# Altium schematic symbol library WCH.SchLib: 139 symbols (part 3 of 3)
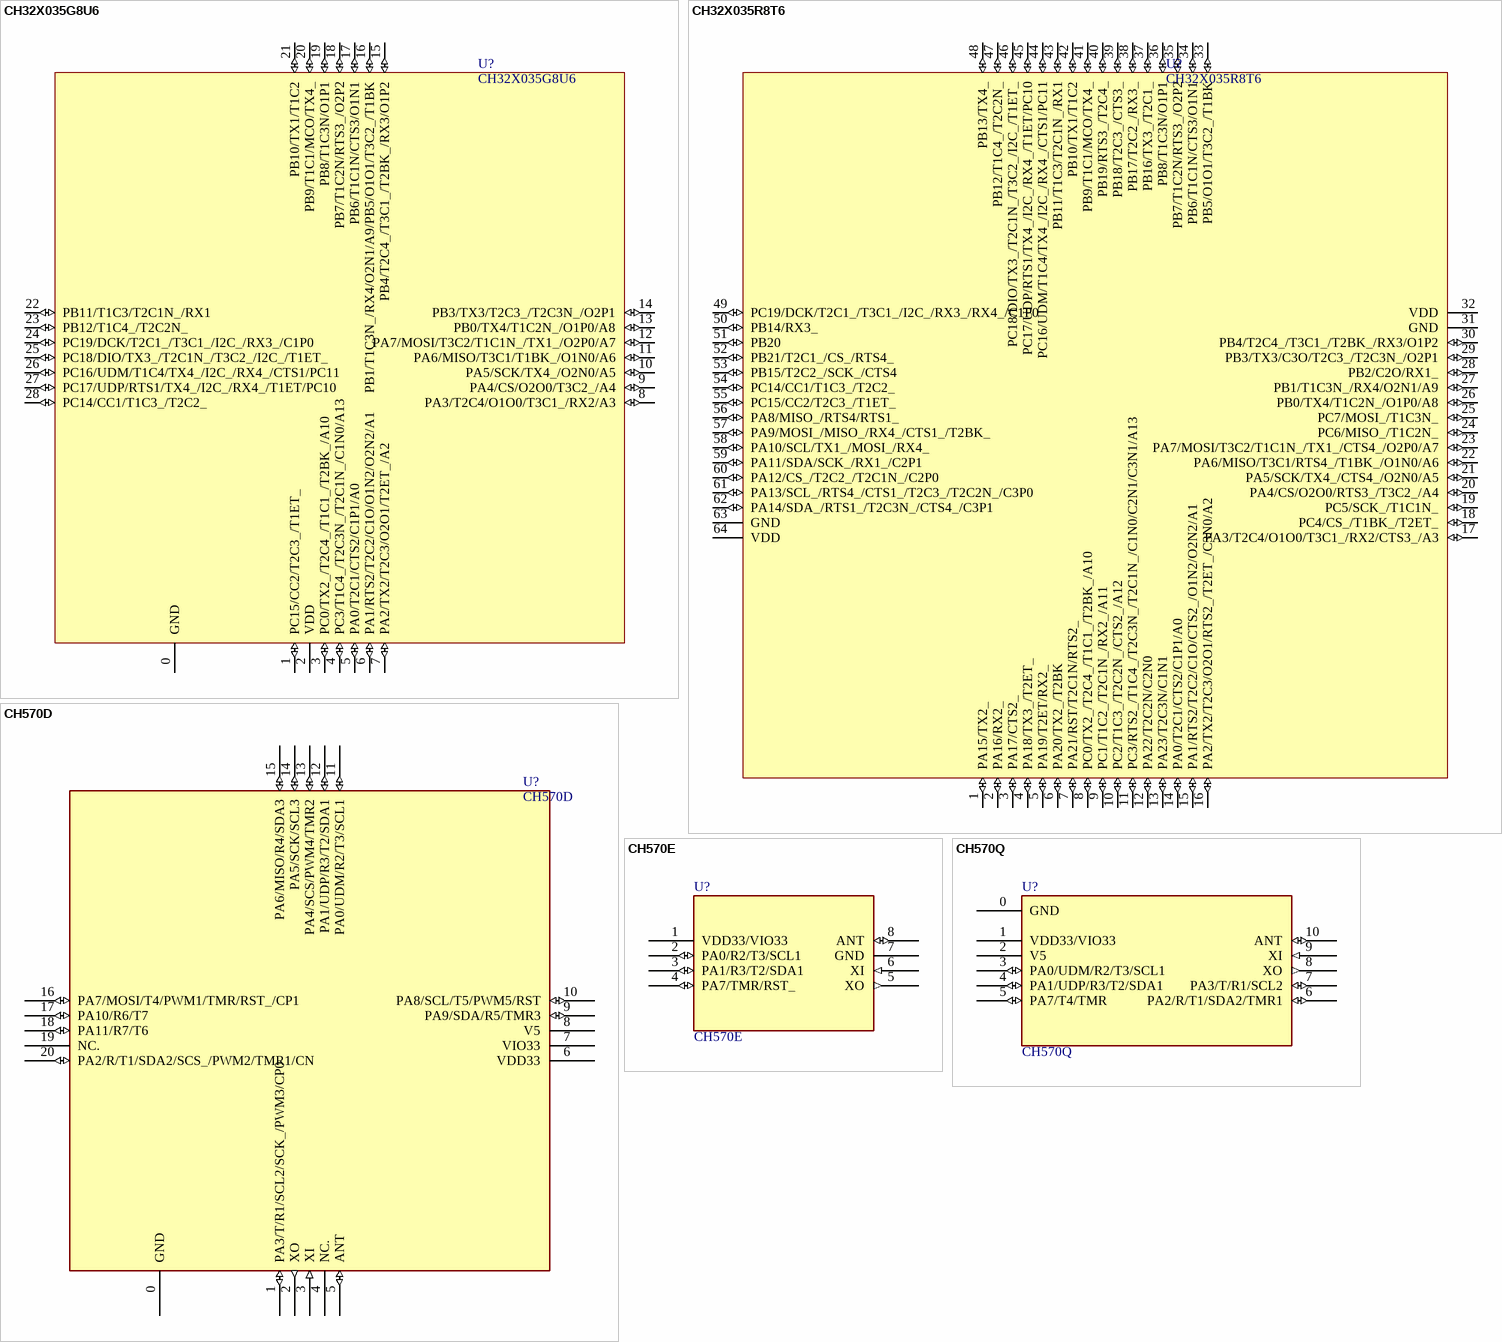
[diagram p28: symbols CH32X035G8U6 to CH570Q]

## CH32X035R8T6
designator U?
RISC-V MCU with USB/PD/ADC/SPI/I2C/UART/OA/CMP; CPU内核: RISC-V4C; CPU最大主频: 48MHz; I/O数量: 60; 制造商: WCH(南京沁恒); 子类别: RISC-V USB-PD; 存储器类型: FLASH; 存储容量: 62KB; 封装: LQFP64M; 工作电压: 3.3V/5V; 类别: 32位通用
footprint LQFP64M_10X10
pins: 1 PA15/TX2_ (io), 2 PA16/RX2_ (io), 3 PA17/CTS2_ (io), 4 PA18/TX3_/T2ET_ (io), 5 PA19/T2ET/RX2_ (io), 6 PA20/TX2_/T2BK (io), 7 PA21/RST/T2C1N/RTS2_ (io), 8 PC0/TX2_/T2C4_/T1C1_/T2BK_/A10 (io), 9 PC1/T1C2_/T2C1N_/RX2_/A11 (io), 10 PC2/T1C3_/T2C2N_/CTS2_/A12 (io), 11 PC3/RTS2_/T1C4_/T2C3N_/T2C1N_/C1N0/C2N1/C3N1/A13 (io), 12 PA22/T2C2N/C2N0 (io), 13 PA23/T2C3N/C1N1 (io), 14 PA0/T2C1/CTS2/C1P1/A0 (io), 15 PA1/RTS2/T2C2/C1O/CTS2_/O1N2/O2N2/A1 (io), 16 PA2/TX2/T2C3/O2O1/RTS2_/T2ET_/C3N0/A2 (io), 17 PA3/T2C4/O1O0/T3C1_/RX2/CTS3_/A3 (io), 18 PC4/CS_/T1BK_/T2ET_ (io), 19 PC5/SCK_/T1C1N_ (io), 20 PA4/CS/O2O0/RTS3_/T3C2_/A4 (io), 21 PA5/SCK/TX4_/CTS4_/O2N0/A5 (io), 22 PA6/MISO/T3C1/RTS4_/T1BK_/O1N0/A6 (io), 23 PA7/MOSI/T3C2/T1C1N_/TX1_/CTS4_/O2P0/A7 (io), 24 PC6/MISO_/T1C2N_ (io), 25 PC7/MOSI_/T1C3N_ (io), 26 PB0/TX4/T1C2N_/O1P0/A8 (io), 27 PB1/T1C3N_/RX4/O2N1/A9 (io), 28 PB2/C2O/RX1_ (io), 29 PB3/TX3/C3O/T2C3_/T2C3N_/O2P1 (io), 30 PB4/T2C4_/T3C1_/T2BK_/RX3/O1P2 (io), 31 GND (power), 32 VDD (power), 33 PB5/O1O1/T3C2_/T1BK (io), 34 PB6/T1C1N/CTS3/O1N1 (io), 35 PB7/T1C2N/RTS3_/O2P2 (io), 36 PB8/T1C3N/O1P1 (io), 37 PB16/TX3_/T2C1_ (io), 38 PB17/T2C2_/RX3_ (io), 39 PB18/T2C3_/CTS3_ (io), 40 PB19/RTS3_/T2C4_ (io), 41 PB9/T1C1/MCO/TX4_ (io), 42 PB10/TX1/T1C2 (io), 43 PB11/T1C3/T2C1N_/RX1 (io), 44 PC16/UDM/T1C4/TX4_/I2C_/RX4_/CTS1/PC11 (io), 45 PC17/UDP/RTS1/TX4_/I2C_/RX4_/T1ET/PC10 (io), 46 PC18/DIO/TX3_/T2C1N_/T3C2_/I2C_/T1ET_ (io), 47 PB12/T1C4_/T2C2N_ (io), 48 PB13/TX4_ (io), 49 PC19/DCK/T2C1_/T3C1_/I2C_/RX3_/RX4_/C1P0 (io), 50 PB14/RX3_ (io), 51 PB20 (io), 52 PB21/T2C1_/CS_/RTS4_ (io), 53 PB15/T2C2_/SCK_/CTS4 (io), 54 PC14/CC1/T1C3_/T2C2_ (io), 55 PC15/CC2/T2C3_/T1ET_ (io), 56 PA8/MISO_/RTS4/RTS1_ (io), 57 PA9/MOSI_/MISO_/RX4_/CTS1_/T2BK_ (io), 58 PA10/SCL/TX1_/MOSI_/RX4_ (io), 59 PA11/SDA/SCK_/RX1_/C2P1 (io), 60 PA12/CS_/T2C2_/T2C1N_/C2P0 (io), 61 PA13/SCL_/RTS4_/CTS1_/T2C3_/T2C2N_/C3P0 (io), 62 PA14/SDA_/RTS1_/T2C3N_/CTS4_/C3P1 (io), 63 GND (power), 64 VDD (power)

## CH570D
designator U?
RISC-V MCU with 2.4GHz Wireless/USB/SPI/UART/I2C/PWM/CMP; CPU内核: RISC-V3C; CPU最大主频: 100MHz; I/O数量: 12; 制造商: WCH(南京沁恒); 子类别: RISC-V蓝牙; 存储器类型: FLASH; 存储容量: 240Kb; 封装: QFN20; 工作电压: 2.0V/3.3V; 类别: 蓝牙芯片
footprint QFN20_3X3 (Footprint not found)
pins: 0 GND (power), 1 PA3/T/R1/SCL2/SCK_/PWM3/CP0 (io), 2 XO (out), 3 XI (in), 4 NC., 5 ANT (io), 6 VDD33 (power), 7 VIO33 (power), 8 V5 (power), 9 PA9/SDA/R5/TMR3 (io), 10 PA8/SCL/T5/PWM5/RST (io), 11 PA0/UDM/R2/T3/SCL1 (io), 12 PA1/UDP/R3/T2/SDA1 (io), 13 PA4/SCS/PWM4/TMR2 (io), 14 PA5/SCK/SCL3 (io), 15 PA6/MISO/R4/SDA3 (io), 16 PA7/MOSI/T4/PWM1/TMR/RST_/CP1 (io), 17 PA10/R6/T7 (io), 18 PA11/R7/T6 (io), 19 NC., 20 PA2/R/T1/SDA2/SCS_/PWM2/TMR1/CN (io)

## CH570E
designator U?
RISC-V MCU with 2.4GHz Wireless/UART/I2C; CPU内核: RISC-V3C; CPU最大主频: 100MHz; I/O数量: 3; 制造商: WCH(南京沁恒); 子类别: RISC-V蓝牙; 存储器类型: FLASH; 存储容量: 240Kb; 封装: SOP8; 工作电压: 2.0V/3.3V; 类别: 蓝牙芯片
footprint SOP8
pins: 1 VDD33/VIO33 (power), 2 PA0/R2/T3/SCL1 (io), 3 PA1/R3/T2/SDA1 (io), 4 PA7/TMR/RST_ (io), 5 XO (out), 6 XI (in), 7 GND (power), 8 ANT (io)

## CH570Q
designator U?
RISC-V MCU with 2.4GHz Wireless/USB/UART/I2C; CPU内核: RISC-V3C; CPU最大主频: 100MHz; I/O数量: 5; 制造商: WCH(南京沁恒); 子类别: RISC-V蓝牙; 存储器类型: FLASH; 存储容量: 240Kb; 封装: DFN10X3; 工作电压: 2.0V/3.3V; 类别: 蓝牙芯片
footprint DFN10_3X3 (Footprint not found)
pins: 0 GND (power), 1 VDD33/VIO33 (power), 2 V5 (power), 3 PA0/UDM/R2/T3/SCL1 (io), 4 PA1/UDP/R3/T2/SDA1 (io), 5 PA7/T4/TMR (io), 6 PA2/R/T1/SDA2/TMR1 (io), 7 PA3/T/R1/SCL2 (io), 8 XO (out), 9 XI (in), 10 ANT (io)

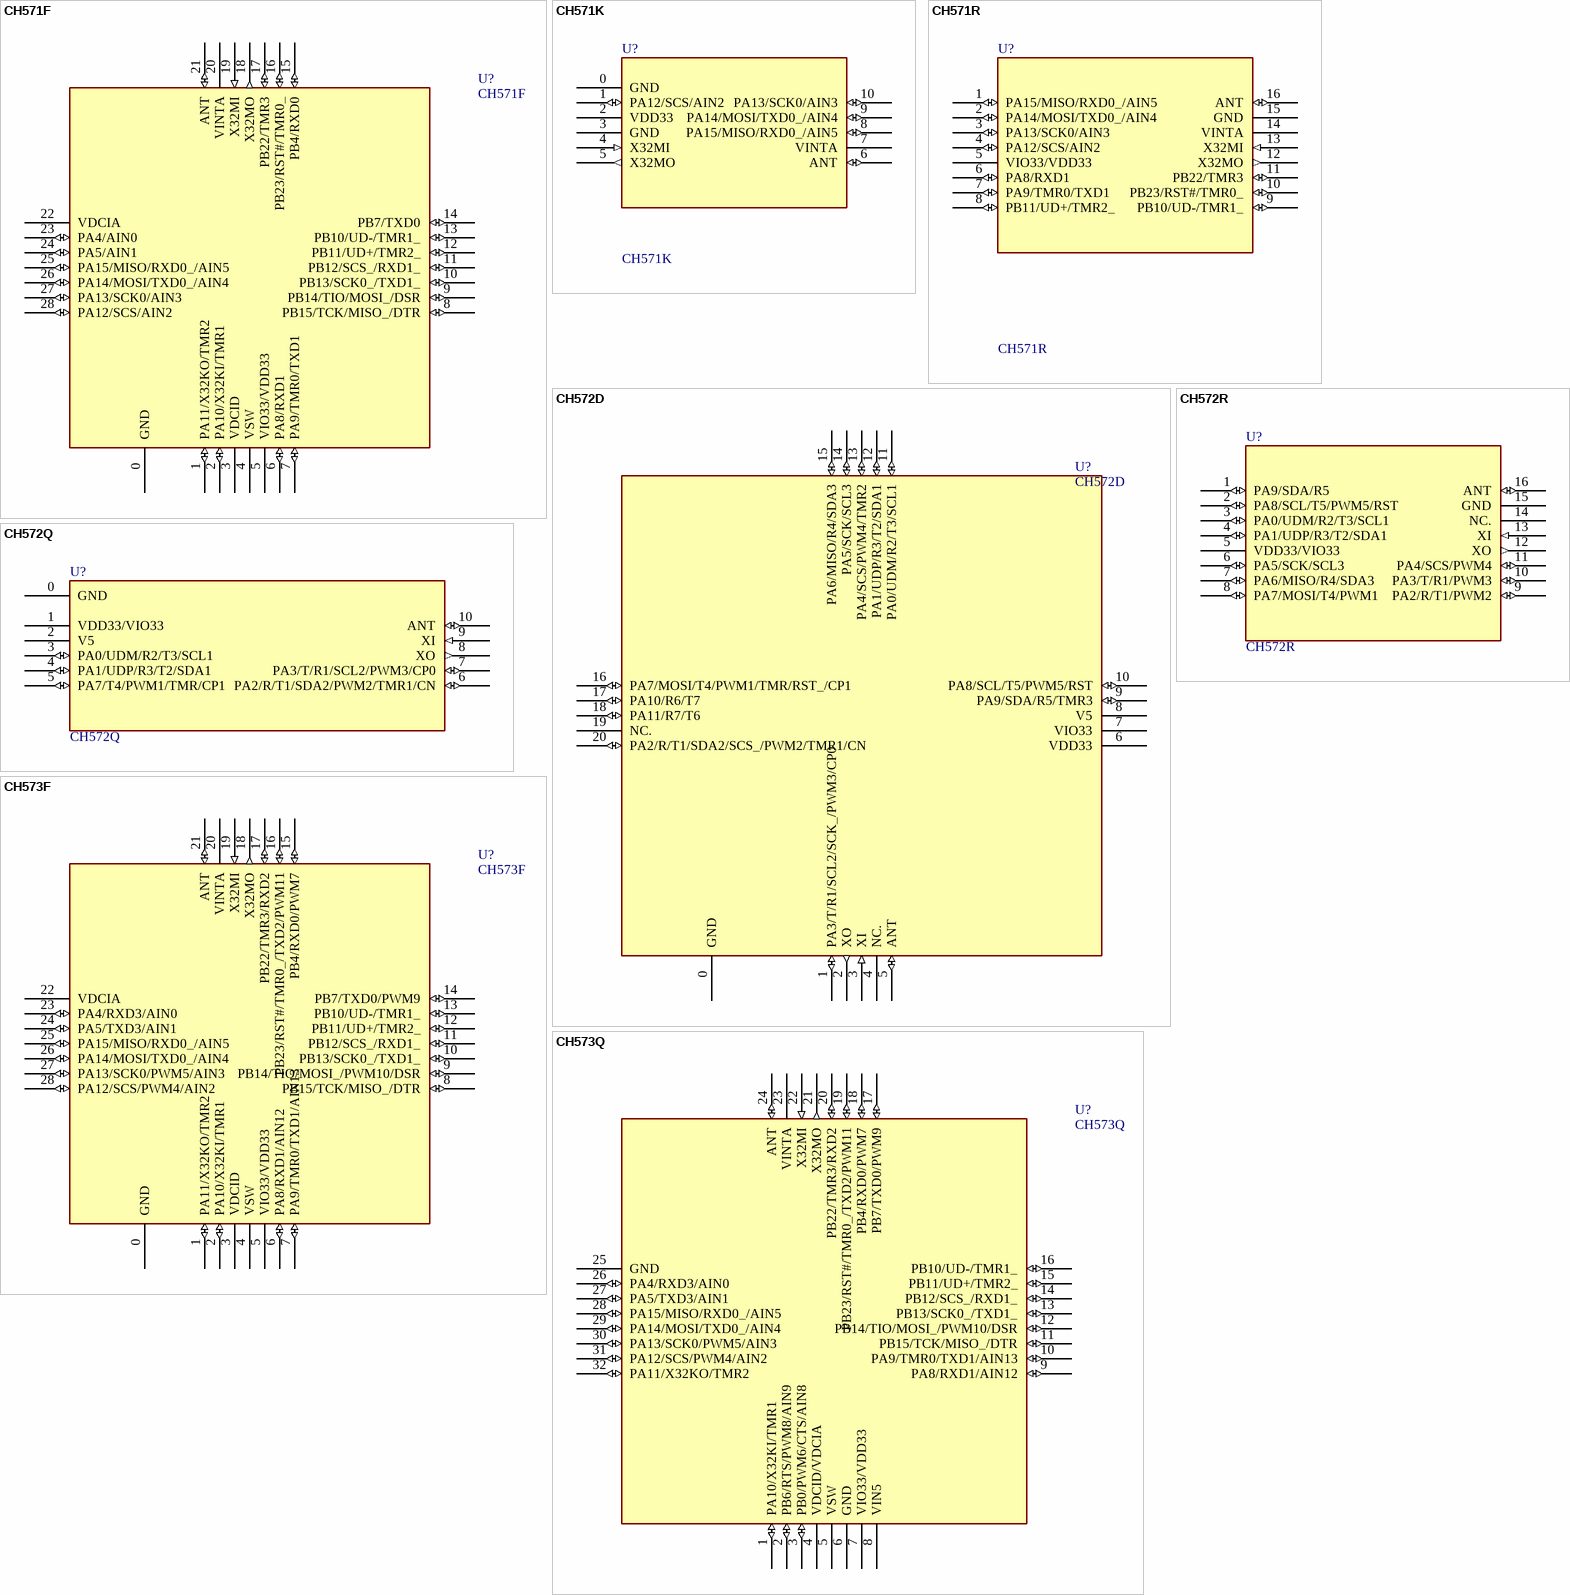
[diagram p17: symbols CH571F to CH573Q]

## CH571F
designator U?
RISC-V MCU with BLE/USB/ADC/SPI/2*UART; CPU内核: RISC-V3A; CPU最大主频: 20MHz; I/O数量: 20; 制造商: WCH(南京沁恒); 子类别: RISC-V蓝牙; 存储器类型: FLASH; 存储容量: 192Kb; 封装: QFN28; 工作电压: 2.3V/3.3V; 类别: 蓝牙芯片
footprint QFN28_4X4
pins: 0 GND (power), 1 PA11/X32KO/TMR2 (io), 2 PA10/X32KI/TMR1 (io), 3 VDCID (power), 4 VSW (power), 5 VIO33/VDD33 (power), 6 PA8/RXD1 (io), 7 PA9/TMR0/TXD1 (io), 8 PB15/TCK/MISO_/DTR (io), 9 PB14/TIO/MOSI_/DSR (io), 10 PB13/SCK0_/TXD1_ (io), 11 PB12/SCS_/RXD1_ (io), 12 PB11/UD+/TMR2_ (io), 13 PB10/UD-/TMR1_ (io), 14 PB7/TXD0 (io), 15 PB4/RXD0 (io), 16 PB23/RST#/TMR0_ (io), 17 PB22/TMR3 (io), 18 X32MO (out), 19 X32MI (in), 20 VINTA (power), 21 ANT (io), 22 VDCIA (power), 23 PA4/AIN0 (io), 24 PA5/AIN1 (io), 25 PA15/MISO/RXD0_/AIN5 (io), 26 PA14/MOSI/TXD0_/AIN4 (io), 27 PA13/SCK0/AIN3 (io), 28 PA12/SCS/AIN2 (io)

## CH571K
designator U?
RISC-V MCU with BLE/ADC/SPI/UART; CPU内核: RISC-V3A; CPU最大主频: 20MHz; I/O数量: 4; 制造商: WCH(南京沁恒); 子类别: RISC-V蓝牙; 存储器类型: FLASH; 存储容量: 192Kb; 封装: ESSOP10; 工作电压: 2.3V/3.3V; 类别: 蓝牙芯片
footprint ESSOP10 (Footprint not found)
pins: 0 GND (power), 1 PA12/SCS/AIN2 (io), 2 VDD33 (power), 3 GND (power), 4 X32MI (in), 5 X32MO (out), 6 ANT (io), 7 VINTA (power), 8 PA15/MISO/RXD0_/AIN5 (io), 9 PA14/MOSI/TXD0_/AIN4 (io), 10 PA13/SCK0/AIN3 (io)

## CH571R
designator U?
RISC-V MCU with BLE/USB/ADC/SPI/2*UART; CPU内核: RISC-V3A; CPU最大主频: 20MHz; I/O数量: 10; 制造商: WCH(南京沁恒); 子类别: RISC-V蓝牙; 存储器类型: FLASH; 存储容量: 192Kb; 封装: TSSOP16; 工作电压: 2.3V/3.3V; 类别: 蓝牙芯片
footprint TSSOP16 (Footprint not found)
pins: 1 PA15/MISO/RXD0_/AIN5 (io), 2 PA14/MOSI/TXD0_/AIN4 (io), 3 PA13/SCK0/AIN3 (io), 4 PA12/SCS/AIN2 (io), 5 VIO33/VDD33 (power), 6 PA8/RXD1 (io), 7 PA9/TMR0/TXD1 (io), 8 PB11/UD+/TMR2_ (io), 9 PB10/UD-/TMR1_ (io), 10 PB23/RST#/TMR0_ (io), 11 PB22/TMR3 (io), 12 X32MO (out), 13 X32MI (in), 14 VINTA (power), 15 GND (power), 16 ANT (io)

## CH572D
designator U?
RISC-V MCU with BLE/2.4GHz Wireless/USB/SPI/UART/I2C/PWM/CMP; CPU内核: RISC-V3C; CPU最大主频: 100MHz; I/O数量: 20; 制造商: WCH(南京沁恒); 子类别: RISC-V蓝牙; 存储器类型: FLASH; 存储容量: 240Kb; 封装: QFN20; 工作电压: 2.0V/3.3V; 类别: 蓝牙芯片
footprint QFN20_3X3 (Footprint not found)
pins: 0 GND (power), 1 PA3/T/R1/SCL2/SCK_/PWM3/CP0 (io), 2 XO (out), 3 XI (in), 4 NC., 5 ANT (io), 6 VDD33 (power), 7 VIO33 (power), 8 V5 (power), 9 PA9/SDA/R5/TMR3 (io), 10 PA8/SCL/T5/PWM5/RST (io), 11 PA0/UDM/R2/T3/SCL1 (io), 12 PA1/UDP/R3/T2/SDA1 (io), 13 PA4/SCS/PWM4/TMR2 (io), 14 PA5/SCK/SCL3 (io), 15 PA6/MISO/R4/SDA3 (io), 16 PA7/MOSI/T4/PWM1/TMR/RST_/CP1 (io), 17 PA10/R6/T7 (io), 18 PA11/R7/T6 (io), 19 NC., 20 PA2/R/T1/SDA2/SCS_/PWM2/TMR1/CN (io)

## CH572Q
designator U?
RISC-V MCU with BLE/2.4GHz Wireless/USB/UART/I2C/PWM/CMP; CPU内核: RISC-V3C; CPU最大主频: 100MHz; I/O数量: 5; 制造商: WCH(南京沁恒); 子类别: RISC-V蓝牙; 存储器类型: FLASH; 存储容量: 240Kb; 封装: DFN10X3; 工作电压: 2.0V/3.3V; 类别: 蓝牙芯片
footprint DFN10_3X3 (Footprint not found)
pins: 0 GND (power), 1 VDD33/VIO33 (power), 2 V5 (power), 3 PA0/UDM/R2/T3/SCL1 (io), 4 PA1/UDP/R3/T2/SDA1 (io), 5 PA7/T4/PWM1/TMR/CP1 (io), 6 PA2/R/T1/SDA2/PWM2/TMR1/CN (io), 7 PA3/T/R1/SCL2/PWM3/CP0 (io), 8 XO (out), 9 XI (in), 10 ANT (io)

## CH572R
designator U?
RISC-V MCU with BLE/2.4GHz Wireless/USB/SPI/UART/I2C/PWM/CMP; CPU内核: RISC-V3C; CPU最大主频: 100MHz; I/O数量: 9; 制造商: WCH(南京沁恒); 子类别: RISC-V蓝牙; 存储器类型: FLASH; 存储容量: 240Kb; 封装: TSSOP16; 工作电压: 2.0V/3.3V; 类别: 蓝牙芯片
footprint TSSOP16
pins: 1 PA9/SDA/R5 (io), 2 PA8/SCL/T5/PWM5/RST (io), 3 PA0/UDM/R2/T3/SCL1 (io), 4 PA1/UDP/R3/T2/SDA1 (io), 5 VDD33/VIO33 (power), 6 PA5/SCK/SCL3 (io), 7 PA6/MISO/R4/SDA3 (io), 8 PA7/MOSI/T4/PWM1 (io), 9 PA2/R/T1/PWM2 (io), 10 PA3/T/R1/PWM3 (io), 11 PA4/SCS/PWM4 (io), 12 XO (out), 13 XI (in), 14 NC., 15 GND (power), 16 ANT (io)

## CH573F
designator U?
RISC-V MCU with BLE/USB/ADC/SPI/4*UART; CPU内核: RISC-V3A; CPU最大主频: 20MHz; I/O数量: 20; 制造商: WCH(南京沁恒); 子类别: RISC-V蓝牙; 存储器类型: FLASH; 存储容量: 448Kb; 封装: QFN28; 工作电压: 1.7V/3.3V; 类别: 蓝牙芯片
footprint QFN28_4X4
pins: 0 GND (power), 1 PA11/X32KO/TMR2 (io), 2 PA10/X32KI/TMR1 (io), 3 VDCID (power), 4 VSW (power), 5 VIO33/VDD33 (power), 6 PA8/RXD1/AIN12 (io), 7 PA9/TMR0/TXD1/AIN13 (io), 8 PB15/TCK/MISO_/DTR (io), 9 PB14/TIO/MOSI_/PWM10/DSR (io), 10 PB13/SCK0_/TXD1_ (io), 11 PB12/SCS_/RXD1_ (io), 12 PB11/UD+/TMR2_ (io), 13 PB10/UD-/TMR1_ (io), 14 PB7/TXD0/PWM9 (io), 15 PB4/RXD0/PWM7 (io), 16 PB23/RST#/TMR0_/TXD2/PWM11 (io), 17 PB22/TMR3/RXD2 (io), 18 X32MO (out), 19 X32MI (in), 20 VINTA (power), 21 ANT (io), 22 VDCIA (power), 23 PA4/RXD3/AIN0 (io), 24 PA5/TXD3/AIN1 (io), 25 PA15/MISO/RXD0_/AIN5 (io), 26 PA14/MOSI/TXD0_/AIN4 (io), 27 PA13/SCK0/PWM5/AIN3 (io), 28 PA12/SCS/PWM4/AIN2 (io)

## CH573Q
designator U?
RISC-V MCU with BLE/USB/ADC/SPI/4*UART; CPU内核: RISC-V3A; CPU最大主频: 20MHz; I/O数量: 22; 制造商: WCH(南京沁恒); 子类别: RISC-V蓝牙; 存储器类型: FLASH; 存储容量: 192Kb; 封装: LQFP32; 工作电压: 1.7V/3.3V; 类别: 蓝牙芯片
footprint LQFP32 (Footprint not found)
pins: 1 PA10/X32KI/TMR1 (io), 2 PB6/RTS/PWM8/AIN9 (io), 3 PB0/PWM6/CTS/AIN8 (io), 4 VDCID/VDCIA (power), 5 VSW (power), 6 GND (power), 7 VIO33/VDD33 (power), 8 VIN5 (power), 9 PA8/RXD1/AIN12 (io), 10 PA9/TMR0/TXD1/AIN13 (io), 11 PB15/TCK/MISO_/DTR (io), 12 PB14/TIO/MOSI_/PWM10/DSR (io), 13 PB13/SCK0_/TXD1_ (io), 14 PB12/SCS_/RXD1_ (io), 15 PB11/UD+/TMR2_ (io), 16 PB10/UD-/TMR1_ (io), 17 PB7/TXD0/PWM9 (io), 18 PB4/RXD0/PWM7 (io), 19 PB23/RST#/TMR0_/TXD2/PWM11 (io), 20 PB22/TMR3/RXD2 (io), 21 X32MO (out), 22 X32MI (in), 23 VINTA (power), 24 ANT (io), 25 GND (power), 26 PA4/RXD3/AIN0 (io), 27 PA5/TXD3/AIN1 (io), 28 PA15/MISO/RXD0_/AIN5 (io), 29 PA14/MOSI/TXD0_/AIN4 (io), 30 PA13/SCK0/PWM5/AIN3 (io), 31 PA12/SCS/PWM4/AIN2 (io), 32 PA11/X32KO/TMR2 (io)

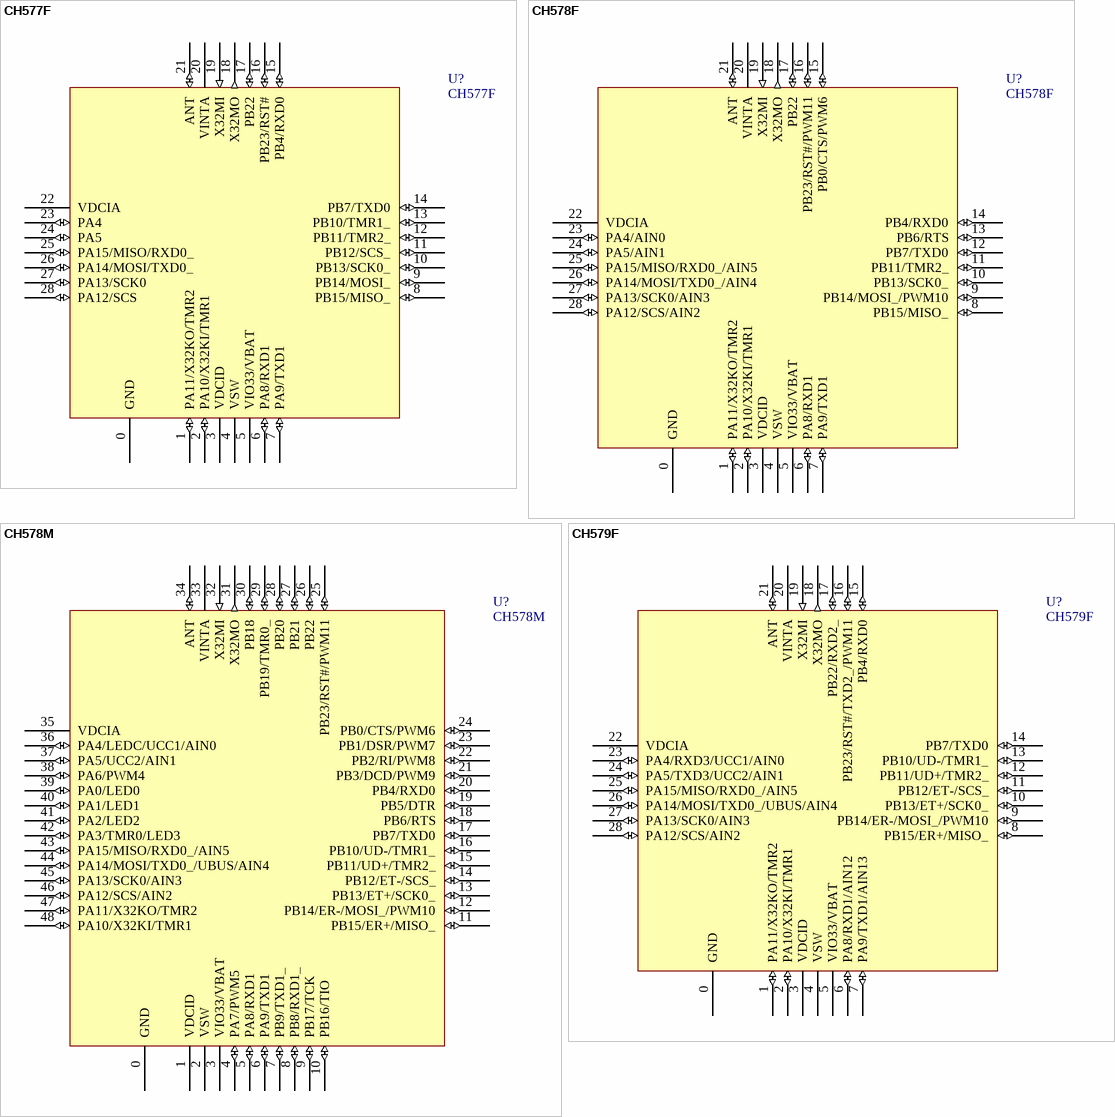
[diagram p18: symbols CH577F to CH579F]

## CH577F
designator U?
ARM M0 MCU with Bluetooth-LowEnergy+doubleUART+SPI; CPU内核: Cortex-M0; CPU最大主频: 40MHz; I/O数量: 20; 制造商: WCH(南京沁恒); 子类别: 其他蓝牙; 存储器类型: FLASH; 存储容量: 128Kb; 封装: QFN28; 工作电压: 2.5V/3.3V; 类别: 蓝牙芯片
footprint QFN28_4X4
pins: 0 GND (power), 1 PA11/X32KO/TMR2 (io), 2 PA10/X32KI/TMR1 (io), 3 VDCID (power), 4 VSW (power), 5 VIO33/VBAT (power), 6 PA8/RXD1 (io), 7 PA9/TXD1 (io), 8 PB15/MISO_ (io), 9 PB14/MOSI_ (io), 10 PB13/SCK0_ (io), 11 PB12/SCS_ (io), 12 PB11/TMR2_ (io), 13 PB10/TMR1_ (io), 14 PB7/TXD0 (io), 15 PB4/RXD0 (io), 16 PB23/RST# (io), 17 PB22 (io), 18 X32MO (out), 19 X32MI (in), 20 VINTA (power), 21 ANT (io), 22 VDCIA (power), 23 PA4 (io), 24 PA5 (io), 25 PA15/MISO/RXD0_ (io), 26 PA14/MOSI/TXD0_ (io), 27 PA13/SCK0 (io), 28 PA12/SCS (io)

## CH578F
designator U?
ARM M0 MCU with Bluetooth-LowEnergy+doubleUART+SPI+ADC; CPU内核: Cortex-M0; CPU最大主频: 40MHz; I/O数量: 20; 制造商: WCH(南京沁恒); 子类别: 其他蓝牙; 存储器类型: FLASH; 存储容量: 160Kb; 封装: QFN28; 工作电压: 2.5V/3.3V; 类别: 蓝牙芯片
footprint QFN28_4X4
pins: 0 GND (power), 1 PA11/X32KO/TMR2 (io), 2 PA10/X32KI/TMR1 (io), 3 VDCID (power), 4 VSW (power), 5 VIO33/VBAT (power), 6 PA8/RXD1 (io), 7 PA9/TXD1 (io), 8 PB15/MISO_ (io), 9 PB14/MOSI_/PWM10 (io), 10 PB13/SCK0_ (io), 11 PB11/TMR2_ (io), 12 PB7/TXD0 (io), 13 PB6/RTS (io), 14 PB4/RXD0 (io), 15 PB0/CTS/PWM6 (io), 16 PB23/RST#/PWM11 (io), 17 PB22 (io), 18 X32MO (out), 19 X32MI (in), 20 VINTA (power), 21 ANT (io), 22 VDCIA (power), 23 PA4/AIN0 (io), 24 PA5/AIN1 (io), 25 PA15/MISO/RXD0_/AIN5 (io), 26 PA14/MOSI/TXD0_/AIN4 (io), 27 PA13/SCK0/AIN3 (io), 28 PA12/SCS/AIN2 (io)

## CH578M
designator U?
ARM M0 MCU with Bluetooth-LowEnergy+Ethernet+USB+segment-LCD; CPU内核: Cortex-M0; CPU最大主频: 40MHz; I/O数量: 40; 制造商: WCH(南京沁恒); 子类别: 其他蓝牙; 存储器类型: FLASH; 存储容量: 160Kb; 封装: QFN48; 工作电压: 2.5V/3.3V; 类别: 蓝牙芯片
footprint QFN48_5X5
pins: 0 GND (power), 1 VDCID (power), 2 VSW (power), 3 VIO33/VBAT (power), 4 PA7/PWM5 (io), 5 PA8/RXD1 (io), 6 PA9/TXD1 (io), 7 PB9/TXD1_ (io), 8 PB8/RXD1_ (io), 9 PB17/TCK (io), 10 PB16/TIO (io), 11 PB15/ER+/MISO_ (io), 12 PB14/ER-/MOSI_/PWM10 (io), 13 PB13/ET+/SCK0_ (io), 14 PB12/ET-/SCS_ (io), 15 PB11/UD+/TMR2_ (io), 16 PB10/UD-/TMR1_ (io), 17 PB7/TXD0 (io), 18 PB6/RTS (io), 19 PB5/DTR (io), 20 PB4/RXD0 (io), 21 PB3/DCD/PWM9 (io), 22 PB2/RI/PWM8 (io), 23 PB1/DSR/PWM7 (io), 24 PB0/CTS/PWM6 (io), 25 PB23/RST#/PWM11 (io), 26 PB22 (io), 27 PB21 (io), 28 PB20 (io), 29 PB19/TMR0_ (io), 30 PB18 (io), 31 X32MO (out), 32 X32MI (in), 33 VINTA (power), 34 ANT (io), 35 VDCIA (power), 36 PA4/LEDC/UCC1/AIN0 (io), 37 PA5/UCC2/AIN1 (io), 38 PA6/PWM4 (io), 39 PA0/LED0 (io), 40 PA1/LED1 (io), 41 PA2/LED2 (io), 42 PA3/TMR0/LED3 (io), 43 PA15/MISO/RXD0_/AIN5 (io), 44 PA14/MOSI/TXD0_/UBUS/AIN4 (io), 45 PA13/SCK0/AIN3 (io), 46 PA12/SCS/AIN2 (io), 47 PA11/X32KO/TMR2 (io), 48 PA10/X32KI/TMR1 (io)

## CH579F
designator U?
ARM M0 MCU with Bluetooth-LowEnergy+Ethernet+USB Host/Device; CPU内核: Cortex-M0; CPU最大主频: 40MHz; I/O数量: 40; 制造商: WCH(南京沁恒); 子类别: 其他蓝牙; 存储器类型: FLASH; 存储容量: 250Kb; 封装: QFN28; 工作电压: 2.5V/3.3V; 类别: 蓝牙芯片
footprint QFN28_4X4
pins: 0 GND (power), 1 PA11/X32KO/TMR2 (io), 2 PA10/X32KI/TMR1 (io), 3 VDCID (power), 4 VSW (power), 5 VIO33/VBAT (power), 6 PA8/RXD1/AIN12 (io), 7 PA9/TXD1/AIN13 (io), 8 PB15/ER+/MISO_ (io), 9 PB14/ER-/MOSI_/PWM10 (io), 10 PB13/ET+/SCK0_ (io), 11 PB12/ET-/SCS_ (io), 12 PB11/UD+/TMR2_ (io), 13 PB10/UD-/TMR1_ (io), 14 PB7/TXD0 (io), 15 PB4/RXD0 (io), 16 PB23/RST#/TXD2_/PWM11 (io), 17 PB22/RXD2_ (io), 18 X32MO (out), 19 X32MI (in), 20 VINTA (power), 21 ANT (io), 22 VDCIA (power), 23 PA4/RXD3/UCC1/AIN0 (io), 24 PA5/TXD3/UCC2/AIN1 (io), 25 PA15/MISO/RXD0_/AIN5 (io), 26 PA14/MOSI/TXD0_/UBUS/AIN4 (io), 27 PA13/SCK0/AIN3 (io), 28 PA12/SCS/AIN2 (io)

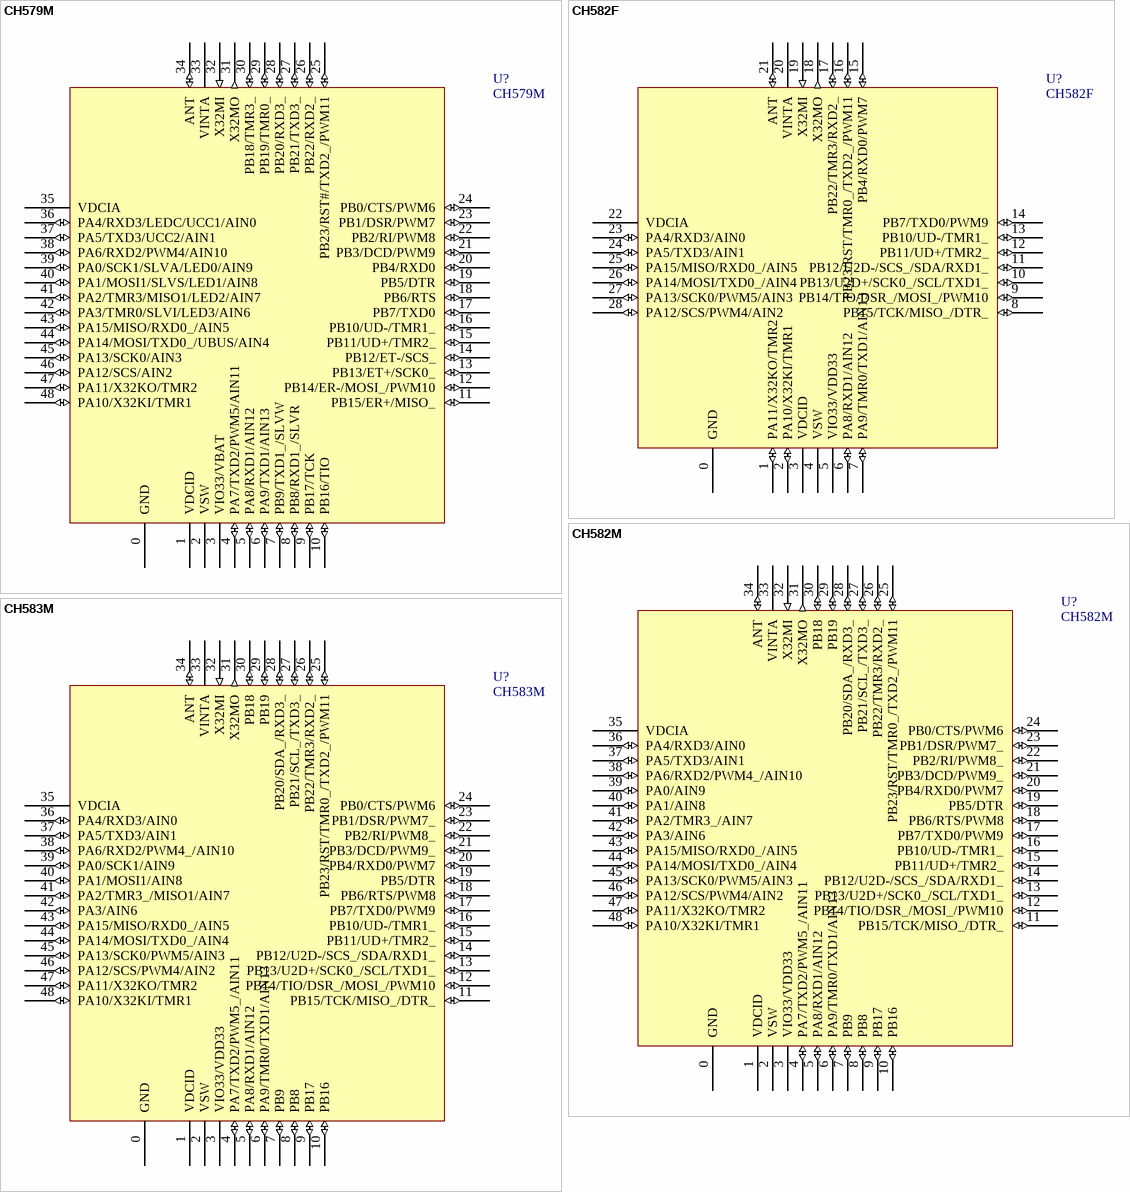
[diagram p19: symbols CH579M to CH583M]

## CH579M
designator U?
ARM M0 MCU with Bluetooth-LowEnergy+Ethernet+USB+segment-LCD; CPU内核: Cortex-M0; CPU最大主频: 40MHz; I/O数量: 40; 制造商: WCH(南京沁恒); 子类别: 其他蓝牙; 存储器类型: FLASH; 存储容量: 250Kb; 封装: QFN48; 工作电压: 2.5V/3.3V; 类别: 蓝牙芯片
footprint QFN48_5X5
pins: 0 GND (power), 1 VDCID (power), 2 VSW (power), 3 VIO33/VBAT (power), 4 PA7/TXD2/PWM5/AIN11 (io), 5 PA8/RXD1/AIN12 (io), 6 PA9/TXD1/AIN13 (io), 7 PB9/TXD1_/SLVW (io), 8 PB8/RXD1_/SLVR (io), 9 PB17/TCK (io), 10 PB16/TIO (io), 11 PB15/ER+/MISO_ (io), 12 PB14/ER-/MOSI_/PWM10 (io), 13 PB13/ET+/SCK0_ (io), 14 PB12/ET-/SCS_ (io), 15 PB11/UD+/TMR2_ (io), 16 PB10/UD-/TMR1_ (io), 17 PB7/TXD0 (io), 18 PB6/RTS (io), 19 PB5/DTR (io), 20 PB4/RXD0 (io), 21 PB3/DCD/PWM9 (io), 22 PB2/RI/PWM8 (io), 23 PB1/DSR/PWM7 (io), 24 PB0/CTS/PWM6 (io), 25 PB23/RST#/TXD2_/PWM11 (io), 26 PB22/RXD2_ (io), 27 PB21/TXD3_ (io), 28 PB20/RXD3_ (io), 29 PB19/TMR0_ (io), 30 PB18/TMR3_ (io), 31 X32MO (out), 32 X32MI (in), 33 VINTA (power), 34 ANT (io), 35 VDCIA (power), 36 PA4/RXD3/LEDC/UCC1/AIN0 (io), 37 PA5/TXD3/UCC2/AIN1 (io), 38 PA6/RXD2/PWM4/AIN10 (io), 39 PA0/SCK1/SLVA/LED0/AIN9 (io), 40 PA1/MOSI1/SLVS/LED1/AIN8 (io), 41 PA2/TMR3/MISO1/LED2/AIN7 (io), 42 PA3/TMR0/SLVI/LED3/AIN6 (io), 43 PA15/MISO/RXD0_/AIN5 (io), 44 PA14/MOSI/TXD0_/UBUS/AIN4 (io), 45 PA13/SCK0/AIN3 (io), 46 PA12/SCS/AIN2 (io), 47 PA11/X32KO/TMR2 (io), 48 PA10/X32KI/TMR1 (io)

## CH582F
designator U?
RISC-V MCU with BLE/2*USB/ADC/PWM/SPI/I2C/4*UART; CPU内核: RISC-V4A; 制造商: WCH(南京沁恒); I/O数量: 20; 子类别: RISC-V蓝牙; 存储器类型: FLASH; 存储容量: 448Kb; 封装: QFN28; 工作电压: 2.3V/3.3V; 类别: 蓝牙芯片; CPU最大主频: 20MHz
footprint QFN28_4X4
pins: 0 GND (power), 1 PA11/X32KO/TMR2 (io), 2 PA10/X32KI/TMR1 (io), 3 VDCID (power), 4 VSW (power), 5 VIO33/VDD33 (power), 6 PA8/RXD1/AIN12 (io), 7 PA9/TMR0/TXD1/AIN13 (io), 8 PB15/TCK/MISO_/DTR_ (io), 9 PB14/TIO/DSR_/MOSI_/PWM10 (io), 10 PB13/U2D+/SCK0_/SCL/TXD1_ (io), 11 PB12/U2D-/SCS_/SDA/RXD1_ (io), 12 PB11/UD+/TMR2_ (io), 13 PB10/UD-/TMR1_ (io), 14 PB7/TXD0/PWM9 (io), 15 PB4/RXD0/PWM7 (io), 16 PB23/RST/TMR0_/TXD2_/PWM11 (io), 17 PB22/TMR3/RXD2_ (io), 18 X32MO (out), 19 X32MI (in), 20 VINTA (power), 21 ANT (io), 22 VDCIA (power), 23 PA4/RXD3/AIN0 (io), 24 PA5/TXD3/AIN1 (io), 25 PA15/MISO/RXD0_/AIN5 (io), 26 PA14/MOSI/TXD0_/AIN4 (io), 27 PA13/SCK0/PWM5/AIN3 (io), 28 PA12/SCS/PWM4/AIN2 (io)

## CH582M
designator U?
RISC-V MCU with BLE/2*USB/ADC/PWM/SPI/I2C/4*UART; 制造商: WCH(南京沁恒); CPU内核: RISC-V4A; I/O数量: 40; 子类别: RISC-V蓝牙; 存储器类型: FLASH; 存储容量: 448Kb; 封装: QFN48; 工作电压: 2.3V/3.3V; 类别: 蓝牙芯片; CPU最大主频: 20MHz
footprint QFN48_5X5
pins: 0 GND (power), 1 VDCID (power), 2 VSW (power), 3 VIO33/VDD33 (power), 4 PA7/TXD2/PWM5_/AIN11 (io), 5 PA8/RXD1/AIN12 (io), 6 PA9/TMR0/TXD1/AIN13 (io), 7 PB9 (io), 8 PB8 (io), 9 PB17 (io), 10 PB16 (io), 11 PB15/TCK/MISO_/DTR_ (io), 12 PB14/TIO/DSR_/MOSI_/PWM10 (io), 13 PB13/U2D+/SCK0_/SCL/TXD1_ (io), 14 PB12/U2D-/SCS_/SDA/RXD1_ (io), 15 PB11/UD+/TMR2_ (io), 16 PB10/UD-/TMR1_ (io), 17 PB7/TXD0/PWM9 (io), 18 PB6/RTS/PWM8 (io), 19 PB5/DTR (io), 20 PB4/RXD0/PWM7 (io), 21 PB3/DCD/PWM9_ (io), 22 PB2/RI/PWM8_ (io), 23 PB1/DSR/PWM7_ (io), 24 PB0/CTS/PWM6 (io), 25 PB23/RST/TMR0_/TXD2_/PWM11 (io), 26 PB22/TMR3/RXD2_ (io), 27 PB21/SCL_/TXD3_ (io), 28 PB20/SDA_/RXD3_ (io), 29 PB19 (io), 30 PB18 (io), 31 X32MO (out), 32 X32MI (in), 33 VINTA (power), 34 ANT (io), 35 VDCIA (power), 36 PA4/RXD3/AIN0 (io), 37 PA5/TXD3/AIN1 (io), 38 PA6/RXD2/PWM4_/AIN10 (io), 39 PA0/AIN9 (io), 40 PA1/AIN8 (io), 41 PA2/TMR3_/AIN7 (io), 42 PA3/AIN6 (io), 43 PA15/MISO/RXD0_/AIN5 (io), 44 PA14/MOSI/TXD0_/AIN4 (io), 45 PA13/SCK0/PWM5/AIN3 (io), 46 PA12/SCS/PWM4/AIN2 (io), 47 PA11/X32KO/TMR2 (io), 48 PA10/X32KI/TMR1 (io)

## CH583M
designator U?
RISC-V MCU with BLE/2*USB/ADC/PWM/SPI/I2C/4*UART; 制造商: WCH(南京沁恒); CPU内核: RISC-V4A; I/O数量: 40; 子类别: RISC-V蓝牙; 存储器类型: FLASH; 存储容量: 448Kb; 封装: QFN48; 工作电压: 1.7V/3.3V; 类别: 蓝牙芯片; CPU最大主频: 20MHz
footprint QFN48_5X5
pins: 0 GND (power), 1 VDCID (power), 2 VSW (power), 3 VIO33/VDD33 (power), 4 PA7/TXD2/PWM5_/AIN11 (io), 5 PA8/RXD1/AIN12 (io), 6 PA9/TMR0/TXD1/AIN13 (io), 7 PB9 (io), 8 PB8 (io), 9 PB17 (io), 10 PB16 (io), 11 PB15/TCK/MISO_/DTR_ (io), 12 PB14/TIO/DSR_/MOSI_/PWM10 (io), 13 PB13/U2D+/SCK0_/SCL/TXD1_ (io), 14 PB12/U2D-/SCS_/SDA/RXD1_ (io), 15 PB11/UD+/TMR2_ (io), 16 PB10/UD-/TMR1_ (io), 17 PB7/TXD0/PWM9 (io), 18 PB6/RTS/PWM8 (io), 19 PB5/DTR (io), 20 PB4/RXD0/PWM7 (io), 21 PB3/DCD/PWM9_ (io), 22 PB2/RI/PWM8_ (io), 23 PB1/DSR/PWM7_ (io), 24 PB0/CTS/PWM6 (io), 25 PB23/RST/TMR0_/TXD2_/PWM11 (io), 26 PB22/TMR3/RXD2_ (io), 27 PB21/SCL_/TXD3_ (io), 28 PB20/SDA_/RXD3_ (io), 29 PB19 (io), 30 PB18 (io), 31 X32MO (out), 32 X32MI (in), 33 VINTA (power), 34 ANT (io), 35 VDCIA (power), 36 PA4/RXD3/AIN0 (io), 37 PA5/TXD3/AIN1 (io), 38 PA6/RXD2/PWM4_/AIN10 (io), 39 PA0/SCK1/AIN9 (io), 40 PA1/MOSI1/AIN8 (io), 41 PA2/TMR3_/MISO1/AIN7 (io), 42 PA3/AIN6 (io), 43 PA15/MISO/RXD0_/AIN5 (io), 44 PA14/MOSI/TXD0_/AIN4 (io), 45 PA13/SCK0/PWM5/AIN3 (io), 46 PA12/SCS/PWM4/AIN2 (io), 47 PA11/X32KO/TMR2 (io), 48 PA10/X32KI/TMR1 (io)

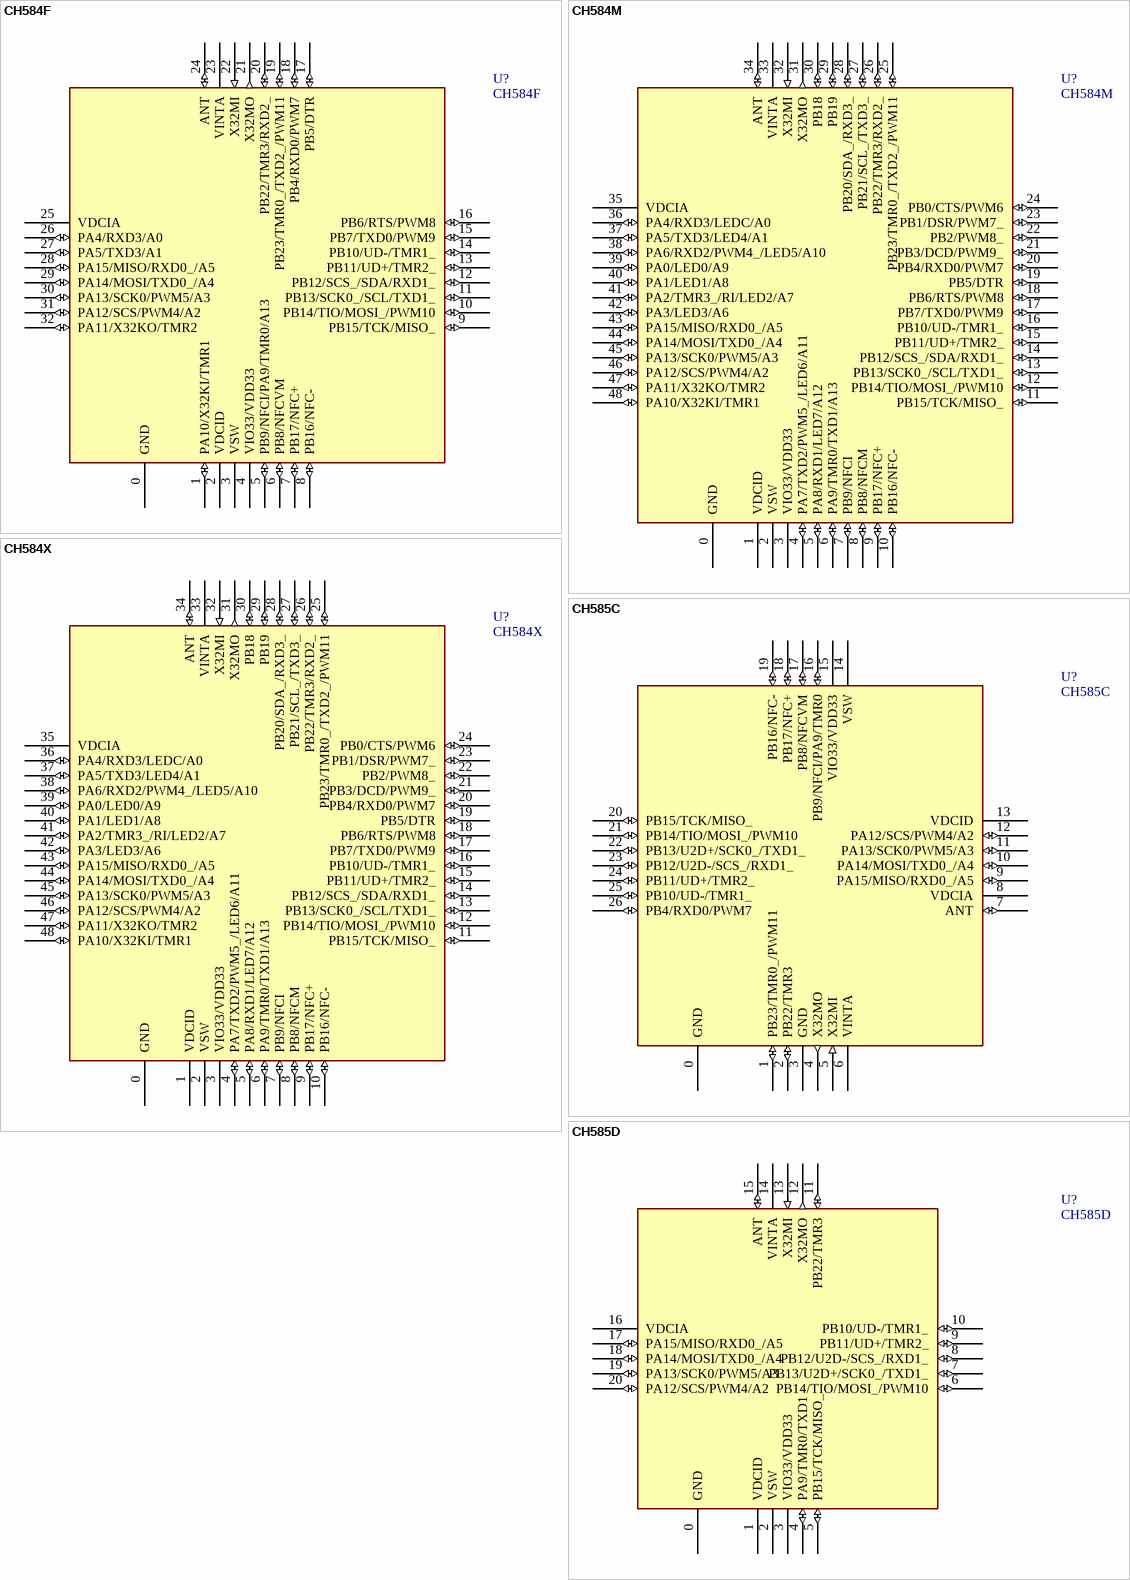
[diagram p20: symbols CH584F to CH585D]

## CH584F
designator U?
RISC-V MCU with BLE/USB/NFC/ADC/PWM/SPI/I2C/4*UART/LCD; 制造商: WCH(南京沁恒); CPU内核: RISC-V3C; I/O数量: 24; 子类别: RISC-V蓝牙; 存储器类型: FLASH; 存储容量: 448Kb; 封装: QFN32; 工作电压: 1.7V/3.3V; 类别: 蓝牙芯片; CPU最大主频: 78MHz
footprint QFN32_4X4
pins: 0 GND (power), 1 PA10/X32KI/TMR1 (io), 2 VDCID (power), 3 VSW (power), 4 VIO33/VDD33 (power), 5 PB9/NFCI/PA9/TMR0/A13 (io), 6 PB8/NFCVM (io), 7 PB17/NFC+ (io), 8 PB16/NFC- (io), 9 PB15/TCK/MISO_ (io), 10 PB14/TIO/MOSI_/PWM10 (io), 11 PB13/SCK0_/SCL/TXD1_ (io), 12 PB12/SCS_/SDA/RXD1_ (io), 13 PB11/UD+/TMR2_ (io), 14 PB10/UD-/TMR1_ (io), 15 PB7/TXD0/PWM9 (io), 16 PB6/RTS/PWM8 (io), 17 PB5/DTR (io), 18 PB4/RXD0/PWM7 (io), 19 PB23/TMR0_/TXD2_/PWM11 (io), 20 PB22/TMR3/RXD2_ (io), 21 X32MO (out), 22 X32MI (in), 23 VINTA (power), 24 ANT (io), 25 VDCIA (power), 26 PA4/RXD3/A0 (io), 27 PA5/TXD3/A1 (io), 28 PA15/MISO/RXD0_/A5 (io), 29 PA14/MOSI/TXD0_/A4 (io), 30 PA13/SCK0/PWM5/A3 (io), 31 PA12/SCS/PWM4/A2 (io), 32 PA11/X32KO/TMR2 (io)

## CH584M
designator U?
RISC-V MCU with BLE/USB/NFC/ADC/PWM/SPI/I2C/4*UART/LCD; 制造商: WCH(南京沁恒); CPU内核: RISC-V3C; I/O数量: 40; 子类别: RISC-V蓝牙; 存储器类型: FLASH; 存储容量: 448Kb; 封装: QFN48; 工作电压: 1.7V/3.3V; 类别: 蓝牙芯片; CPU最大主频: 78MHz
footprint QFN48_5X5
pins: 0 GND (power), 1 VDCID (power), 2 VSW (power), 3 VIO33/VDD33 (power), 4 PA7/TXD2/PWM5_/LED6/A11 (io), 5 PA8/RXD1/LED7/A12 (io), 6 PA9/TMR0/TXD1/A13 (io), 7 PB9/NFCI (io), 8 PB8/NFCM (io), 9 PB17/NFC+ (io), 10 PB16/NFC- (io), 11 PB15/TCK/MISO_ (io), 12 PB14/TIO/MOSI_/PWM10 (io), 13 PB13/SCK0_/SCL/TXD1_ (io), 14 PB12/SCS_/SDA/RXD1_ (io), 15 PB11/UD+/TMR2_ (io), 16 PB10/UD-/TMR1_ (io), 17 PB7/TXD0/PWM9 (io), 18 PB6/RTS/PWM8 (io), 19 PB5/DTR (io), 20 PB4/RXD0/PWM7 (io), 21 PB3/DCD/PWM9_ (io), 22 PB2/PWM8_ (io), 23 PB1/DSR/PWM7_ (io), 24 PB0/CTS/PWM6 (io), 25 PB23/TMR0_/TXD2_/PWM11 (io), 26 PB22/TMR3/RXD2_ (io), 27 PB21/SCL_/TXD3_ (io), 28 PB20/SDA_/RXD3_ (io), 29 PB19 (io), 30 PB18 (io), 31 X32MO (out), 32 X32MI (in), 33 VINTA (power), 34 ANT (io), 35 VDCIA (power), 36 PA4/RXD3/LEDC/A0 (io), 37 PA5/TXD3/LED4/A1 (io), 38 PA6/RXD2/PWM4_/LED5/A10 (io), 39 PA0/LED0/A9 (io), 40 PA1/LED1/A8 (io), 41 PA2/TMR3_/RI/LED2/A7 (io), 42 PA3/LED3/A6 (io), 43 PA15/MISO/RXD0_/A5 (io), 44 PA14/MOSI/TXD0_/A4 (io), 45 PA13/SCK0/PWM5/A3 (io), 46 PA12/SCS/PWM4/A2 (io), 47 PA11/X32KO/TMR2 (io), 48 PA10/X32KI/TMR1 (io)

## CH584X
designator U?
RISC-V MCU with BLE/USB/NFC/ADC/PWM/SPI/I2C/4*UART/LCD; 制造商: WCH(南京沁恒); CPU内核: RISC-V3C; I/O数量: 40; 子类别: RISC-V蓝牙; 存储器类型: FLASH; 存储容量: 480Kb; 封装: QFN48; 工作电压: 1.7V/3.3V; 类别: 蓝牙芯片; CPU最大主频: 78MHz
footprint QFN48_5X5
pins: 0 GND (power), 1 VDCID (power), 2 VSW (power), 3 VIO33/VDD33 (power), 4 PA7/TXD2/PWM5_/LED6/A11 (io), 5 PA8/RXD1/LED7/A12 (io), 6 PA9/TMR0/TXD1/A13 (io), 7 PB9/NFCI (io), 8 PB8/NFCM (io), 9 PB17/NFC+ (io), 10 PB16/NFC- (io), 11 PB15/TCK/MISO_ (io), 12 PB14/TIO/MOSI_/PWM10 (io), 13 PB13/SCK0_/SCL/TXD1_ (io), 14 PB12/SCS_/SDA/RXD1_ (io), 15 PB11/UD+/TMR2_ (io), 16 PB10/UD-/TMR1_ (io), 17 PB7/TXD0/PWM9 (io), 18 PB6/RTS/PWM8 (io), 19 PB5/DTR (io), 20 PB4/RXD0/PWM7 (io), 21 PB3/DCD/PWM9_ (io), 22 PB2/PWM8_ (io), 23 PB1/DSR/PWM7_ (io), 24 PB0/CTS/PWM6 (io), 25 PB23/TMR0_/TXD2_/PWM11 (io), 26 PB22/TMR3/RXD2_ (io), 27 PB21/SCL_/TXD3_ (io), 28 PB20/SDA_/RXD3_ (io), 29 PB19 (io), 30 PB18 (io), 31 X32MO (out), 32 X32MI (in), 33 VINTA (power), 34 ANT (io), 35 VDCIA (power), 36 PA4/RXD3/LEDC/A0 (io), 37 PA5/TXD3/LED4/A1 (io), 38 PA6/RXD2/PWM4_/LED5/A10 (io), 39 PA0/LED0/A9 (io), 40 PA1/LED1/A8 (io), 41 PA2/TMR3_/RI/LED2/A7 (io), 42 PA3/LED3/A6 (io), 43 PA15/MISO/RXD0_/A5 (io), 44 PA14/MOSI/TXD0_/A4 (io), 45 PA13/SCK0/PWM5/A3 (io), 46 PA12/SCS/PWM4/A2 (io), 47 PA11/X32KO/TMR2 (io), 48 PA10/X32KI/TMR1 (io)

## CH585C
designator U?
RISC-V MCU with BLE/HSUSB/USB/NFC/ADC/PWM/SPI/2*UART; 制造商: WCH(南京沁恒); CPU内核: RISC-V3C; I/O数量: 17; 子类别: RISC-V蓝牙; 存储器类型: FLASH; 存储容量: 448Kb; 封装: QFN26C3; 工作电压: 1.7V/3.3V; 类别: 蓝牙芯片; CPU最大主频: 78MHz
footprint QFN26C_3X3
pins: 0 GND (power), 1 PB23/TMR0_/PWM11 (io), 2 PB22/TMR3 (io), 3 GND (power), 4 X32MO (out), 5 X32MI (in), 6 VINTA (power), 7 ANT (io), 8 VDCIA (power), 9 PA15/MISO/RXD0_/A5 (io), 10 PA14/MOSI/TXD0_/A4 (io), 11 PA13/SCK0/PWM5/A3 (io), 12 PA12/SCS/PWM4/A2 (io), 13 VDCID (power), 14 VSW (power), 15 VIO33/VDD33 (power), 16 PB9/NFCI/PA9/TMR0 (io), 17 PB8/NFCVM (io), 18 PB17/NFC+ (io), 19 PB16/NFC- (io), 20 PB15/TCK/MISO_ (io), 21 PB14/TIO/MOSI_/PWM10 (io), 22 PB13/U2D+/SCK0_/TXD1_ (io), 23 PB12/U2D-/SCS_/RXD1_ (io), 24 PB11/UD+/TMR2_ (io), 25 PB10/UD-/TMR1_ (io), 26 PB4/RXD0/PWM7 (io)

## CH585D
designator U?
RISC-V MCU with BLE/HSUSB/USB/ADC/PWM/SPI/2*UART; 制造商: WCH(南京沁恒); CPU内核: RISC-V3C; I/O数量: 12; 子类别: RISC-V蓝牙; 存储器类型: FLASH; 存储容量: 448Kb; 封装: QFN20; 工作电压: 1.7V/3.3V; 类别: 蓝牙芯片; CPU最大主频: 78MHz
footprint QFN20_3X3 (Footprint not found)
pins: 0 GND (power), 1 VDCID (power), 2 VSW (power), 3 VIO33/VDD33 (power), 4 PA9/TMR0/TXD1 (io), 5 PB15/TCK/MISO_ (io), 6 PB14/TIO/MOSI_/PWM10 (io), 7 PB13/U2D+/SCK0_/TXD1_ (io), 8 PB12/U2D-/SCS_/RXD1_ (io), 9 PB11/UD+/TMR2_ (io), 10 PB10/UD-/TMR1_ (io), 11 PB22/TMR3 (io), 12 X32MO (out), 13 X32MI (in), 14 VINTA (power), 15 ANT (io), 16 VDCIA (power), 17 PA15/MISO/RXD0_/A5 (io), 18 PA14/MOSI/TXD0_/A4 (io), 19 PA13/SCK0/PWM5/A3 (io), 20 PA12/SCS/PWM4/A2 (io)

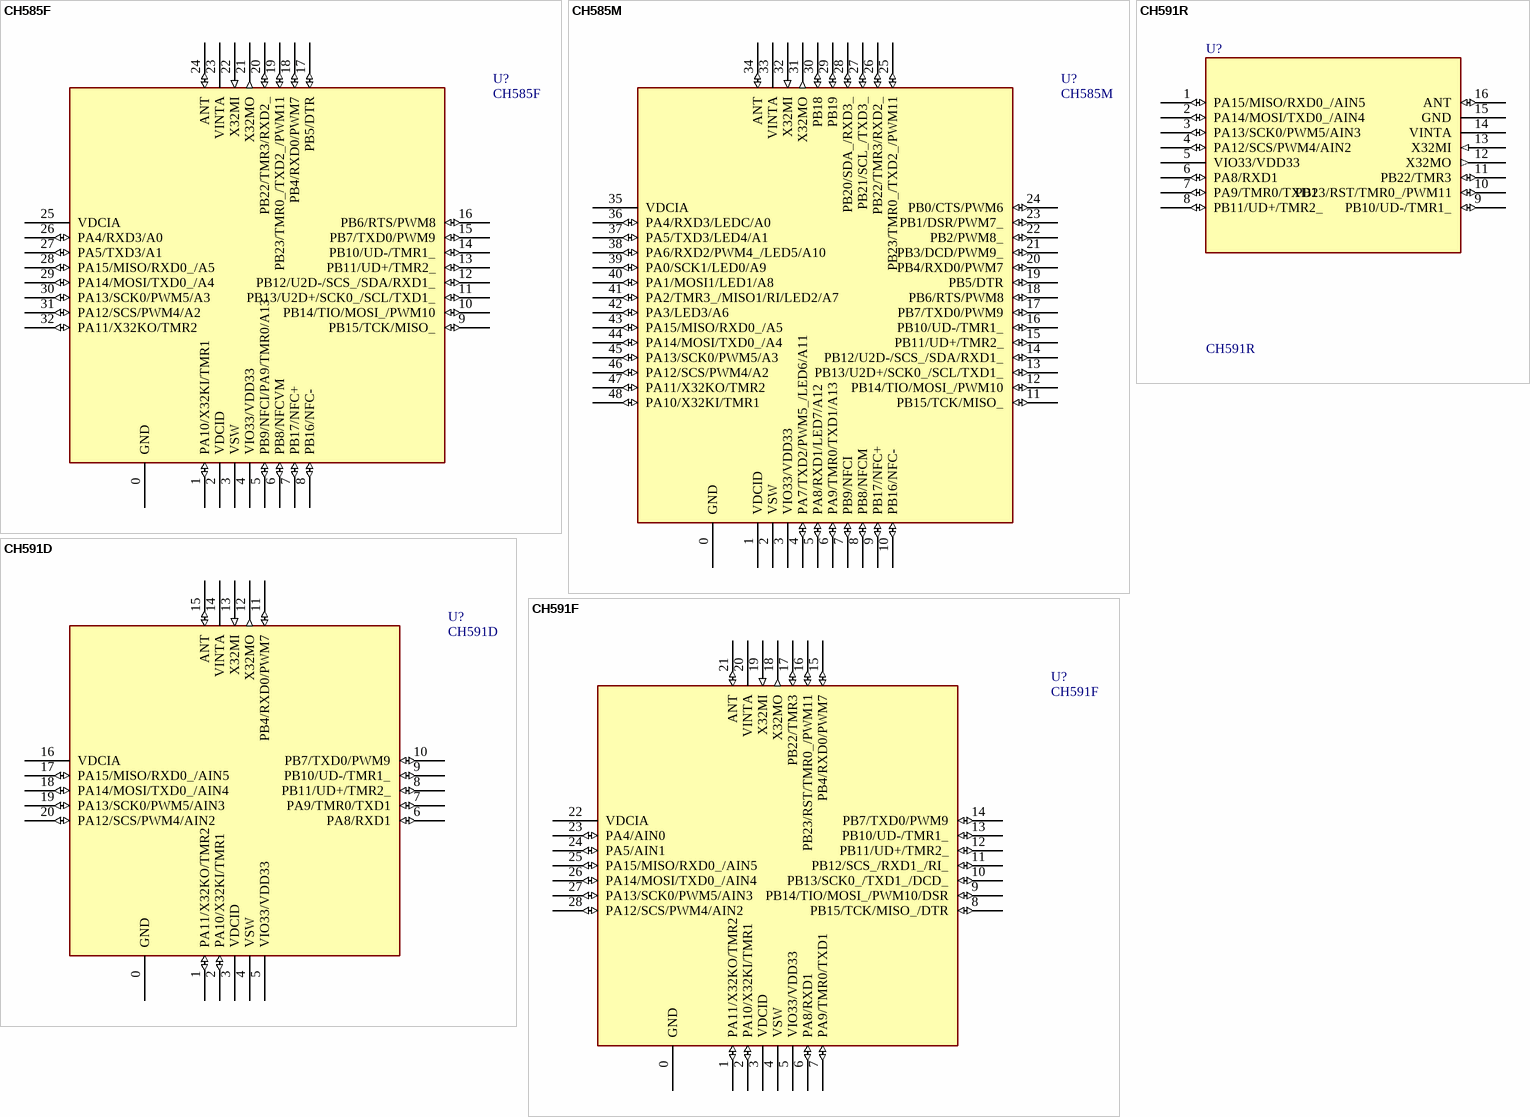
[diagram p21: symbols CH585F to CH591R]

## CH585F
designator U?
RISC-V MCU with BLE/HSUSB/USB/NFC/ADC/PWM/SPI/I2C/4*UART/LCD; 制造商: WCH(南京沁恒); CPU内核: RISC-V3C; I/O数量: 24; 子类别: RISC-V蓝牙; 存储器类型: FLASH; 存储容量: 448Kb; 封装: QFN32; 工作电压: 1.7V/3.3V; 类别: 蓝牙芯片; CPU最大主频: 78MHz
footprint QFN32_4X4
pins: 0 GND (power), 1 PA10/X32KI/TMR1 (io), 2 VDCID (power), 3 VSW (power), 4 VIO33/VDD33 (power), 5 PB9/NFCI/PA9/TMR0/A13 (io), 6 PB8/NFCVM (io), 7 PB17/NFC+ (io), 8 PB16/NFC- (io), 9 PB15/TCK/MISO_ (io), 10 PB14/TIO/MOSI_/PWM10 (io), 11 PB13/U2D+/SCK0_/SCL/TXD1_ (io), 12 PB12/U2D-/SCS_/SDA/RXD1_ (io), 13 PB11/UD+/TMR2_ (io), 14 PB10/UD-/TMR1_ (io), 15 PB7/TXD0/PWM9 (io), 16 PB6/RTS/PWM8 (io), 17 PB5/DTR (io), 18 PB4/RXD0/PWM7 (io), 19 PB23/TMR0_/TXD2_/PWM11 (io), 20 PB22/TMR3/RXD2_ (io), 21 X32MO (out), 22 X32MI (in), 23 VINTA (power), 24 ANT (io), 25 VDCIA (power), 26 PA4/RXD3/A0 (io), 27 PA5/TXD3/A1 (io), 28 PA15/MISO/RXD0_/A5 (io), 29 PA14/MOSI/TXD0_/A4 (io), 30 PA13/SCK0/PWM5/A3 (io), 31 PA12/SCS/PWM4/A2 (io), 32 PA11/X32KO/TMR2 (io)

## CH585M
designator U?
RISC-V MCU with BLE/HSUSB/USB/NFC/ADC/PWM/2*SPI/I2C/4*UART/LCD; 制造商: WCH(南京沁恒); CPU内核: RISC-V3C; I/O数量: 40; 子类别: RISC-V蓝牙; 存储器类型: FLASH; 存储容量: 448Kb; 封装: QFN48; 工作电压: 1.7V/3.3V; 类别: 蓝牙芯片; CPU最大主频: 78MHz
footprint QFN48_5X5
pins: 0 GND (power), 1 VDCID (power), 2 VSW (power), 3 VIO33/VDD33 (power), 4 PA7/TXD2/PWM5_/LED6/A11 (io), 5 PA8/RXD1/LED7/A12 (io), 6 PA9/TMR0/TXD1/A13 (io), 7 PB9/NFCI (io), 8 PB8/NFCM (io), 9 PB17/NFC+ (io), 10 PB16/NFC- (io), 11 PB15/TCK/MISO_ (io), 12 PB14/TIO/MOSI_/PWM10 (io), 13 PB13/U2D+/SCK0_/SCL/TXD1_ (io), 14 PB12/U2D-/SCS_/SDA/RXD1_ (io), 15 PB11/UD+/TMR2_ (io), 16 PB10/UD-/TMR1_ (io), 17 PB7/TXD0/PWM9 (io), 18 PB6/RTS/PWM8 (io), 19 PB5/DTR (io), 20 PB4/RXD0/PWM7 (io), 21 PB3/DCD/PWM9_ (io), 22 PB2/PWM8_ (io), 23 PB1/DSR/PWM7_ (io), 24 PB0/CTS/PWM6 (io), 25 PB23/TMR0_/TXD2_/PWM11 (io), 26 PB22/TMR3/RXD2_ (io), 27 PB21/SCL_/TXD3_ (io), 28 PB20/SDA_/RXD3_ (io), 29 PB19 (io), 30 PB18 (io), 31 X32MO (out), 32 X32MI (in), 33 VINTA (power), 34 ANT (io), 35 VDCIA (power), 36 PA4/RXD3/LEDC/A0 (io), 37 PA5/TXD3/LED4/A1 (io), 38 PA6/RXD2/PWM4_/LED5/A10 (io), 39 PA0/SCK1/LED0/A9 (io), 40 PA1/MOSI1/LED1/A8 (io), 41 PA2/TMR3_/MISO1/RI/LED2/A7 (io), 42 PA3/LED3/A6 (io), 43 PA15/MISO/RXD0_/A5 (io), 44 PA14/MOSI/TXD0_/A4 (io), 45 PA13/SCK0/PWM5/A3 (io), 46 PA12/SCS/PWM4/A2 (io), 47 PA11/X32KO/TMR2 (io), 48 PA10/X32KI/TMR1 (io)

## CH591D
designator U?
RISC-V MCU with BLE/USB/ADC/SPI/2*UART; 制造商: WCH(南京沁恒); CPU内核: RISC-V4C; I/O数量: 12; 子类别: RISC-V蓝牙; 存储器类型: FLASH; 存储容量: 192Kb; 封装: QFN20; 工作电压: 2.3V/3.3V; 类别: 蓝牙芯片; CPU最大主频: 20MHz
footprint QFN20_3X3
pins: 0 GND (power), 1 PA11/X32KO/TMR2 (io), 2 PA10/X32KI/TMR1 (io), 3 VDCID (power), 4 VSW (power), 5 VIO33/VDD33 (power), 6 PA8/RXD1 (io), 7 PA9/TMR0/TXD1 (io), 8 PB11/UD+/TMR2_ (io), 9 PB10/UD-/TMR1_ (io), 10 PB7/TXD0/PWM9 (io), 11 PB4/RXD0/PWM7 (io), 12 X32MO (out), 13 X32MI (in), 14 VINTA (power), 15 ANT (io), 16 VDCIA (power), 17 PA15/MISO/RXD0_/AIN5 (io), 18 PA14/MOSI/TXD0_/AIN4 (io), 19 PA13/SCK0/PWM5/AIN3 (io), 20 PA12/SCS/PWM4/AIN2 (io)

## CH591F
designator U?
RISC-V MCU with BLE/USB/ADC/SPI/2*UART/LCD; 制造商: WCH(南京沁恒); CPU内核: RISC-V4C; I/O数量: 20; 子类别: RISC-V蓝牙; 存储器类型: FLASH; 存储容量: 192Kb; 封装: QFN28; 工作电压: 2.3V/3.3V; 类别: 蓝牙芯片; CPU最大主频: 20MHz
footprint QFN28_4X4 (Footprint not found)
pins: 0 GND (power), 1 PA11/X32KO/TMR2 (io), 2 PA10/X32KI/TMR1 (io), 3 VDCID (power), 4 VSW (power), 5 VIO33/VDD33 (power), 6 PA8/RXD1 (io), 7 PA9/TMR0/TXD1 (io), 8 PB15/TCK/MISO_/DTR (io), 9 PB14/TIO/MOSI_/PWM10/DSR (io), 10 PB13/SCK0_/TXD1_/DCD_ (io), 11 PB12/SCS_/RXD1_/RI_ (io), 12 PB11/UD+/TMR2_ (io), 13 PB10/UD-/TMR1_ (io), 14 PB7/TXD0/PWM9 (io), 15 PB4/RXD0/PWM7 (io), 16 PB23/RST/TMR0_/PWM11 (io), 17 PB22/TMR3 (io), 18 X32MO (out), 19 X32MI (in), 20 VINTA (power), 21 ANT (io), 22 VDCIA (power), 23 PA4/AIN0 (io), 24 PA5/AIN1 (io), 25 PA15/MISO/RXD0_/AIN5 (io), 26 PA14/MOSI/TXD0_/AIN4 (io), 27 PA13/SCK0/PWM5/AIN3 (io), 28 PA12/SCS/PWM4/AIN2 (io)

## CH591R
designator U?
RISC-V MCU with BLE/USB/ADC/SPI/2*UART; 制造商: WCH(南京沁恒); CPU内核: RISC-V4C; I/O数量: 10; 子类别: RISC-V蓝牙; 存储器类型: FLASH; 存储容量: 192Kb; 封装: TSSOP16; 工作电压: 2.3V/3.3V; 类别: 蓝牙芯片; CPU最大主频: 20MHz
footprint TSSOP16 (Footprint not found)
pins: 1 PA15/MISO/RXD0_/AIN5 (io), 2 PA14/MOSI/TXD0_/AIN4 (io), 3 PA13/SCK0/PWM5/AIN3 (io), 4 PA12/SCS/PWM4/AIN2 (io), 5 VIO33/VDD33 (power), 6 PA8/RXD1 (io), 7 PA9/TMR0/TXD1 (io), 8 PB11/UD+/TMR2_ (io), 9 PB10/UD-/TMR1_ (io), 10 PB23/RST/TMR0_/PWM11 (io), 11 PB22/TMR3 (io), 12 X32MO (out), 13 X32MI (in), 14 VINTA (power), 15 GND (power), 16 ANT (io)

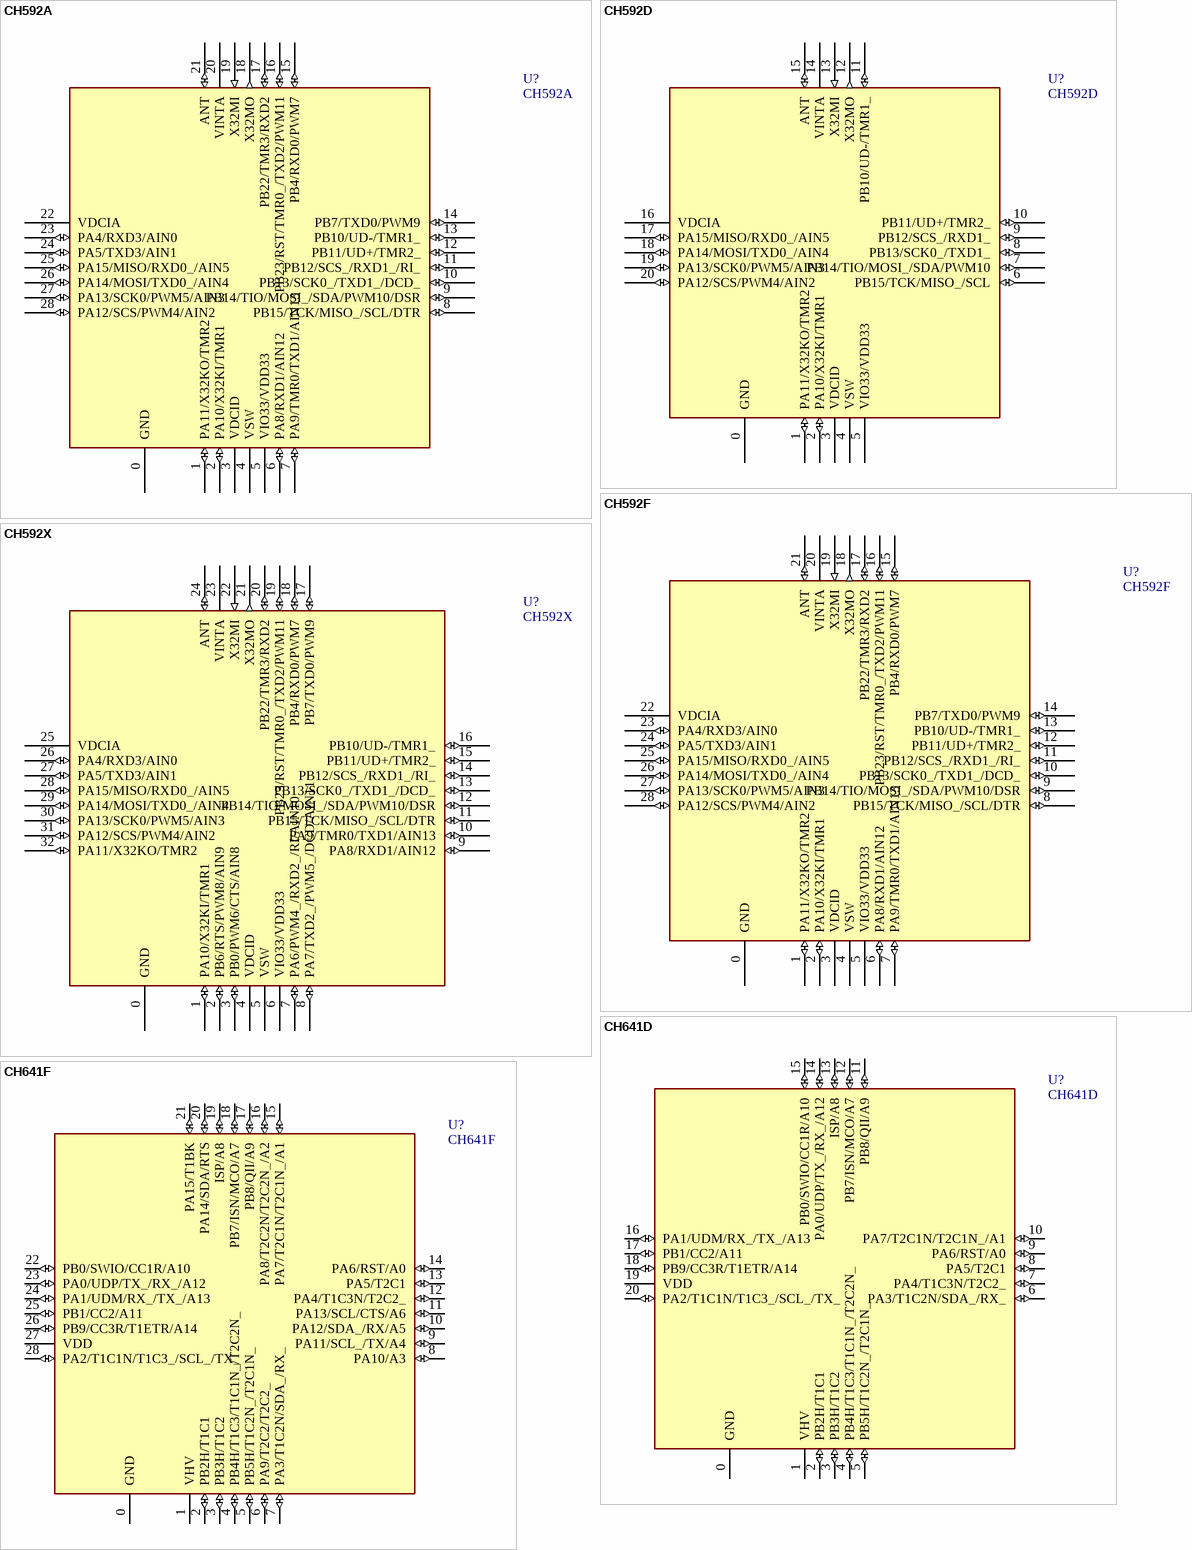
[diagram p22: symbols CH592A to CH641F]

## CH592A
designator U?
RISC-V MCU with BLE/USB/ADC/SPI/4*UART/I2C/LCD; 制造商: WCH(南京沁恒); CPU内核: RISC-V4C; I/O数量: 12; 子类别: RISC-V蓝牙; 存储器类型: FLASH; 存储容量: 448Kb; 封装: QFN28; 工作电压: 1.7V/3.3V; 类别: 蓝牙芯片; CPU最大主频: 20MHz
footprint QFN28_4X4 (Footprint not found)
pins: 0 GND (power), 1 PA11/X32KO/TMR2 (io), 2 PA10/X32KI/TMR1 (io), 3 VDCID (power), 4 VSW (power), 5 VIO33/VDD33 (power), 6 PA8/RXD1/AIN12 (io), 7 PA9/TMR0/TXD1/AIN13 (io), 8 PB15/TCK/MISO_/SCL/DTR (io), 9 PB14/TIO/MOSI_/SDA/PWM10/DSR (io), 10 PB13/SCK0_/TXD1_/DCD_ (io), 11 PB12/SCS_/RXD1_/RI_ (io), 12 PB11/UD+/TMR2_ (io), 13 PB10/UD-/TMR1_ (io), 14 PB7/TXD0/PWM9 (io), 15 PB4/RXD0/PWM7 (io), 16 PB23/RST/TMR0_/TXD2/PWM11 (io), 17 PB22/TMR3/RXD2 (io), 18 X32MO (out), 19 X32MI (in), 20 VINTA (power), 21 ANT (io), 22 VDCIA (power), 23 PA4/RXD3/AIN0 (io), 24 PA5/TXD3/AIN1 (io), 25 PA15/MISO/RXD0_/AIN5 (io), 26 PA14/MOSI/TXD0_/AIN4 (io), 27 PA13/SCK0/PWM5/AIN3 (io), 28 PA12/SCS/PWM4/AIN2 (io)

## CH592D
designator U?
RISC-V MCU with BLE/USB/ADC/SPI/2*UART/I2C; 制造商: WCH(南京沁恒); CPU内核: RISC-V4C; I/O数量: 20; 子类别: RISC-V蓝牙; 存储器类型: FLASH; 存储容量: 448Kb; 封装: QFN20; 工作电压: 1.7V/3.3V; 类别: 蓝牙芯片; CPU最大主频: 20MHz
footprint QFN20_3X3
pins: 0 GND (power), 1 PA11/X32KO/TMR2 (io), 2 PA10/X32KI/TMR1 (io), 3 VDCID (power), 4 VSW (power), 5 VIO33/VDD33 (power), 6 PB15/TCK/MISO_/SCL (io), 7 PB14/TIO/MOSI_/SDA/PWM10 (io), 8 PB13/SCK0_/TXD1_ (io), 9 PB12/SCS_/RXD1_ (io), 10 PB11/UD+/TMR2_ (io), 11 PB10/UD-/TMR1_ (io), 12 X32MO (out), 13 X32MI (in), 14 VINTA (power), 15 ANT (io), 16 VDCIA (power), 17 PA15/MISO/RXD0_/AIN5 (io), 18 PA14/MOSI/TXD0_/AIN4 (io), 19 PA13/SCK0/PWM5/AIN3 (io), 20 PA12/SCS/PWM4/AIN2 (io)

## CH592F
designator U?
RISC-V MCU with BLE/USB/ADC/SPI/4*UART/I2C/LCD; 制造商: WCH(南京沁恒); CPU内核: RISC-V4C; I/O数量: 20; 子类别: RISC-V蓝牙; 存储器类型: FLASH; 存储容量: 448Kb; 封装: QFN28; 工作电压: 1.7V/3.3V; 类别: 蓝牙芯片; CPU最大主频: 20MHz
footprint QFN28_4X4
pins: 0 GND (power), 1 PA11/X32KO/TMR2 (io), 2 PA10/X32KI/TMR1 (io), 3 VDCID (power), 4 VSW (power), 5 VIO33/VDD33 (power), 6 PA8/RXD1/AIN12 (io), 7 PA9/TMR0/TXD1/AIN13 (io), 8 PB15/TCK/MISO_/SCL/DTR (io), 9 PB14/TIO/MOSI_/SDA/PWM10/DSR (io), 10 PB13/SCK0_/TXD1_/DCD_ (io), 11 PB12/SCS_/RXD1_/RI_ (io), 12 PB11/UD+/TMR2_ (io), 13 PB10/UD-/TMR1_ (io), 14 PB7/TXD0/PWM9 (io), 15 PB4/RXD0/PWM7 (io), 16 PB23/RST/TMR0_/TXD2/PWM11 (io), 17 PB22/TMR3/RXD2 (io), 18 X32MO (out), 19 X32MI (in), 20 VINTA (power), 21 ANT (io), 22 VDCIA (power), 23 PA4/RXD3/AIN0 (io), 24 PA5/TXD3/AIN1 (io), 25 PA15/MISO/RXD0_/AIN5 (io), 26 PA14/MOSI/TXD0_/AIN4 (io), 27 PA13/SCK0/PWM5/AIN3 (io), 28 PA12/SCS/PWM4/AIN2 (io)

## CH592X
designator U?
RISC-V MCU with BLE/USB/ADC/SPI/4*UART/I2C/LCD; 制造商: WCH(南京沁恒); CPU内核: RISC-V4C; I/O数量: 24; 子类别: RISC-V蓝牙; 存储器类型: FLASH; 存储容量: 448Kb; 封装: QFN32; 工作电压: 1.7V/3.3V; 类别: 蓝牙芯片; CPU最大主频: 20MHz
footprint QFN32_4X4
pins: 0 GND (power), 1 PA10/X32KI/TMR1 (io), 2 PB6/RTS/PWM8/AIN9 (io), 3 PB0/PWM6/CTS/AIN8 (io), 4 VDCID (power), 5 VSW (power), 6 VIO33/VDD33 (power), 7 PA6/PWM4_/RXD2_/RI/AIN10 (io), 8 PA7/TXD2_/PWM5_/DCD/AIN11 (io), 9 PA8/RXD1/AIN12 (io), 10 PA9/TMR0/TXD1/AIN13 (io), 11 PB15/TCK/MISO_/SCL/DTR (io), 12 PB14/TIO/MOSI_/SDA/PWM10/DSR (io), 13 PB13/SCK0_/TXD1_/DCD_ (io), 14 PB12/SCS_/RXD1_/RI_ (io), 15 PB11/UD+/TMR2_ (io), 16 PB10/UD-/TMR1_ (io), 17 PB7/TXD0/PWM9 (io), 18 PB4/RXD0/PWM7 (io), 19 PB23/RST/TMR0_/TXD2/PWM11 (io), 20 PB22/TMR3/RXD2 (io), 21 X32MO (out), 22 X32MI (in), 23 VINTA (power), 24 ANT (io), 25 VDCIA (power), 26 PA4/RXD3/AIN0 (io), 27 PA5/TXD3/AIN1 (io), 28 PA15/MISO/RXD0_/AIN5 (io), 29 PA14/MOSI/TXD0_/AIN4 (io), 30 PA13/SCK0/PWM5/AIN3 (io), 31 PA12/SCS/PWM4/AIN2 (io), 32 PA11/X32KO/TMR2 (io)

## CH641D
designator U?
RISC-V MCU with PD/ADC/UART/OA, for wireless charging; CPU内核: RISC-V2A; CPU最大主频: 48MHz; I/O数量: 17; 制造商: WCH(南京沁恒); 子类别: RISC-V USB-PD无线; 存储器类型: FLASH; 存储容量: 16KB; 封装: QFN20; 工作电压: 5-12V; 类别: USB-PD芯片
footprint QFN20_3X3
pins: 0 GND (power), 1 VHV (power), 2 PB2H/T1C1 (io), 3 PB3H/T1C2 (io), 4 PB4H/T1C3/T1C1N_/T2C2N_ (io), 5 PB5H/T1C2N_/T2C1N_ (io), 6 PA3/T1C2N/SDA_/RX_ (io), 7 PA4/T1C3N/T2C2_ (io), 8 PA5/T2C1 (io), 9 PA6/RST/A0 (io), 10 PA7/T2C1N/T2C1N_/A1 (io), 11 PB8/QII/A9 (io), 12 PB7/ISN/MCO/A7 (io), 13 ISP/A8 (io), 14 PA0/UDP/TX_/RX_/A12 (io), 15 PB0/SWIO/CC1R/A10 (io), 16 PA1/UDM/RX_/TX_/A13 (io), 17 PB1/CC2/A11 (io), 18 PB9/CC3R/T1ETR/A14 (io), 19 VDD (power), 20 PA2/T1C1N/T1C3_/SCL_/TX_ (io)

## CH641F
designator U?
RISC-V MCU with PD/ADC/UART/OA, for wireless charging; CPU内核: RISC-V2A; CPU最大主频: 48MHz; I/O数量: 25; 制造商: WCH(南京沁恒); 子类别: RISC-V USB-PD无线; 存储器类型: FLASH; 存储容量: 16KB; 封装: QFN28; 工作电压: 5-12V; 类别: USB-PD芯片
footprint QFN28_4X4
pins: 0 GND (power), 1 VHV (power), 2 PB2H/T1C1 (io), 3 PB3H/T1C2 (io), 4 PB4H/T1C3/T1C1N_/T2C2N_ (io), 5 PB5H/T1C2N_/T2C1N_ (io), 6 PA9/T2C2/T2C2_ (io), 7 PA3/T1C2N/SDA_/RX_ (io), 8 PA10/A3 (io), 9 PA11/SCL_/TX/A4 (io), 10 PA12/SDA_/RX/A5 (io), 11 PA13/SCL/CTS/A6 (io), 12 PA4/T1C3N/T2C2_ (io), 13 PA5/T2C1 (io), 14 PA6/RST/A0 (io), 15 PA7/T2C1N/T2C1N_/A1 (io), 16 PA8/T2C2N/T2C2N_/A2 (io), 17 PB8/QII/A9 (io), 18 PB7/ISN/MCO/A7 (io), 19 ISP/A8 (io), 20 PA14/SDA/RTS (io), 21 PA15/T1BK (io), 22 PB0/SWIO/CC1R/A10 (io), 23 PA0/UDP/TX_/RX_/A12 (io), 24 PA1/UDM/RX_/TX_/A13 (io), 25 PB1/CC2/A11 (io), 26 PB9/CC3R/T1ETR/A14 (io), 27 VDD (power), 28 PA2/T1C1N/T1C3_/SCL_/TX_ (io)

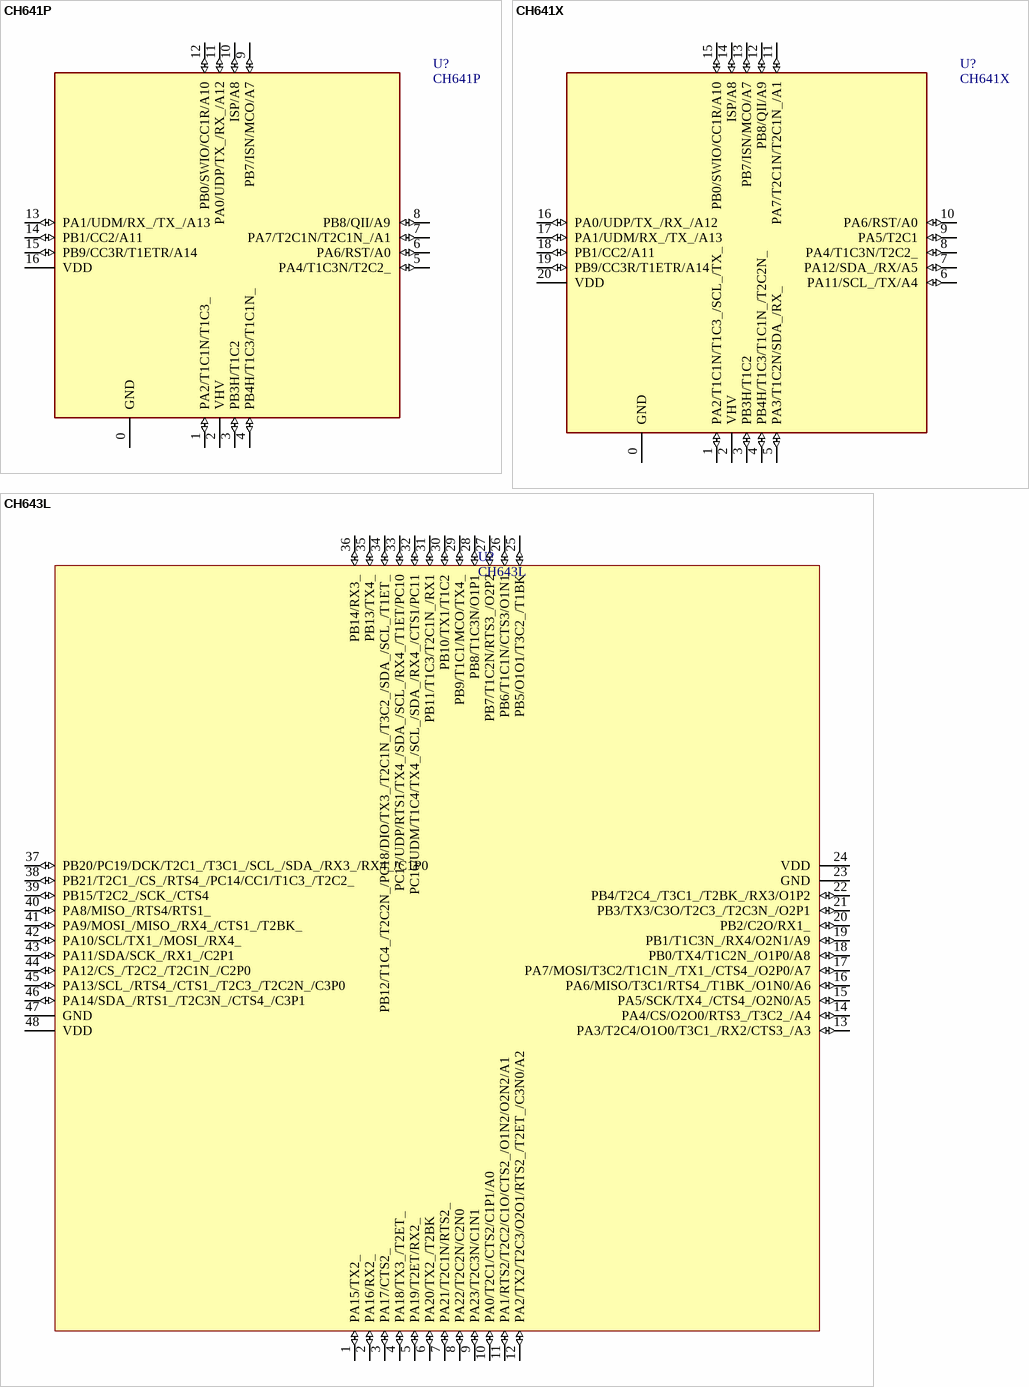
[diagram p23: symbols CH641P to CH643L]

## CH641P
designator U?
RISC-V MCU with PD/ADC/UART/OA, for wireless charging; CPU内核: RISC-V2A; CPU最大主频: 48MHz; I/O数量: 13; 制造商: WCH(南京沁恒); 子类别: RISC-V USB-PD无线; 存储器类型: FLASH; 存储容量: 16KB; 封装: QFN16; 工作电压: 5-12V; 类别: USB-PD芯片
footprint QFN16_3X3
pins: 0 GND (power), 1 PA2/T1C1N/T1C3_ (io), 2 VHV (power), 3 PB3H/T1C2 (io), 4 PB4H/T1C3/T1C1N_ (io), 5 PA4/T1C3N/T2C2_ (io), 6 PA6/RST/A0 (io), 7 PA7/T2C1N/T2C1N_/A1 (io), 8 PB8/QII/A9 (io), 9 PB7/ISN/MCO/A7 (io), 10 ISP/A8 (io), 11 PA0/UDP/TX_/RX_/A12 (io), 12 PB0/SWIO/CC1R/A10 (io), 13 PA1/UDM/RX_/TX_/A13 (io), 14 PB1/CC2/A11 (io), 15 PB9/CC3R/T1ETR/A14 (io), 16 VDD (power)

## CH641X
designator U?
RISC-V MCU with PD/ADC/UART/OA, for wireless charging; CPU内核: RISC-V2A; CPU最大主频: 48MHz; I/O数量: 17; 制造商: WCH(南京沁恒); 子类别: RISC-V USB-PD无线; 存储器类型: FLASH; 存储容量: 16KB; 封装: QFN20; 工作电压: 5-12V; 类别: USB-PD芯片
footprint QFN20_3X3
pins: 0 GND (power), 1 PA2/T1C1N/T1C3_/SCL_/TX_ (io), 2 VHV (power), 3 PB3H/T1C2 (io), 4 PB4H/T1C3/T1C1N_/T2C2N_ (io), 5 PA3/T1C2N/SDA_/RX_ (io), 6 PA11/SCL_/TX/A4 (io), 7 PA12/SDA_/RX/A5 (io), 8 PA4/T1C3N/T2C2_ (io), 9 PA5/T2C1 (io), 10 PA6/RST/A0 (io), 11 PA7/T2C1N/T2C1N_/A1 (io), 12 PB8/QII/A9 (io), 13 PB7/ISN/MCO/A7 (io), 14 ISP/A8 (io), 15 PB0/SWIO/CC1R/A10 (io), 16 PA0/UDP/TX_/RX_/A12 (io), 17 PA1/UDM/RX_/TX_/A13 (io), 18 PB1/CC2/A11 (io), 19 PB9/CC3R/T1ETR/A14 (io), 20 VDD (power)

## CH643L
designator U?
RISC-V MCU with USB/RGB/ADC/SPI/I2C/4*UART/PD; CPU内核: RISC-V4C; CPU最大主频: 48MHz; I/O数量: 44; 制造商: WCH(南京沁恒); 子类别: RISC-V RGB驱动; 存储器类型: FLASH; 存储容量: 62KB; 封装: LQFP48; 工作电压: 3.3V/5.0V; 类别: RGB驱动芯片
footprint LQFP48 (Footprint not found)
pins: 1 PA15/TX2_ (io), 2 PA16/RX2_ (io), 3 PA17/CTS2_ (io), 4 PA18/TX3_/T2ET_ (io), 5 PA19/T2ET/RX2_ (io), 6 PA20/TX2_/T2BK (io), 7 PA21/T2C1N/RTS2_ (io), 8 PA22/T2C2N/C2N0 (io), 9 PA23/T2C3N/C1N1 (io), 10 PA0/T2C1/CTS2/C1P1/A0 (io), 11 PA1/RTS2/T2C2/C1O/CTS2_/O1N2/O2N2/A1 (io), 12 PA2/TX2/T2C3/O2O1/RTS2_/T2ET_/C3N0/A2 (io), 13 PA3/T2C4/O1O0/T3C1_/RX2/CTS3_/A3 (io), 14 PA4/CS/O2O0/RTS3_/T3C2_/A4 (io), 15 PA5/SCK/TX4_/CTS4_/O2N0/A5 (io), 16 PA6/MISO/T3C1/RTS4_/T1BK_/O1N0/A6 (io), 17 PA7/MOSI/T3C2/T1C1N_/TX1_/CTS4_/O2P0/A7 (io), 18 PB0/TX4/T1C2N_/O1P0/A8 (io), 19 PB1/T1C3N_/RX4/O2N1/A9 (io), 20 PB2/C2O/RX1_ (io), 21 PB3/TX3/C3O/T2C3_/T2C3N_/O2P1 (io), 22 PB4/T2C4_/T3C1_/T2BK_/RX3/O1P2 (io), 23 GND (power), 24 VDD (power), 25 PB5/O1O1/T3C2_/T1BK (io), 26 PB6/T1C1N/CTS3/O1N1 (io), 27 PB7/T1C2N/RTS3_/O2P2 (io), 28 PB8/T1C3N/O1P1 (io), 29 PB9/T1C1/MCO/TX4_ (io), 30 PB10/TX1/T1C2 (io), 31 PB11/T1C3/T2C1N_/RX1 (io), 32 PC16/UDM/T1C4/TX4_/SCL_/SDA_/RX4_/CTS1/PC11 (io), 33 PC17/UDP/RTS1/TX4_/SDA_/SCL_/RX4_/T1ET/PC10 (io), 34 PB12/T1C4_/T2C2N_/PC18/DIO/TX3_/T2C1N_/T3C2_/SDA_/SCL_/T1ET_ (io), 35 PB13/TX4_ (io), 36 PB14/RX3_ (io), 37 PB20/PC19/DCK/T2C1_/T3C1_/SCL_/SDA_/RX3_/RX4_/C1P0 (io), 38 PB21/T2C1_/CS_/RTS4_/PC14/CC1/T1C3_/T2C2_ (io), 39 PB15/T2C2_/SCK_/CTS4 (io), 40 PA8/MISO_/RTS4/RTS1_ (io), 41 PA9/MOSI_/MISO_/RX4_/CTS1_/T2BK_ (io), 42 PA10/SCL/TX1_/MOSI_/RX4_ (io), 43 PA11/SDA/SCK_/RX1_/C2P1 (io), 44 PA12/CS_/T2C2_/T2C1N_/C2P0 (io), 45 PA13/SCL_/RTS4_/CTS1_/T2C3_/T2C2N_/C3P0 (io), 46 PA14/SDA_/RTS1_/T2C3N_/CTS4_/C3P1 (io), 47 GND (power), 48 VDD (power)

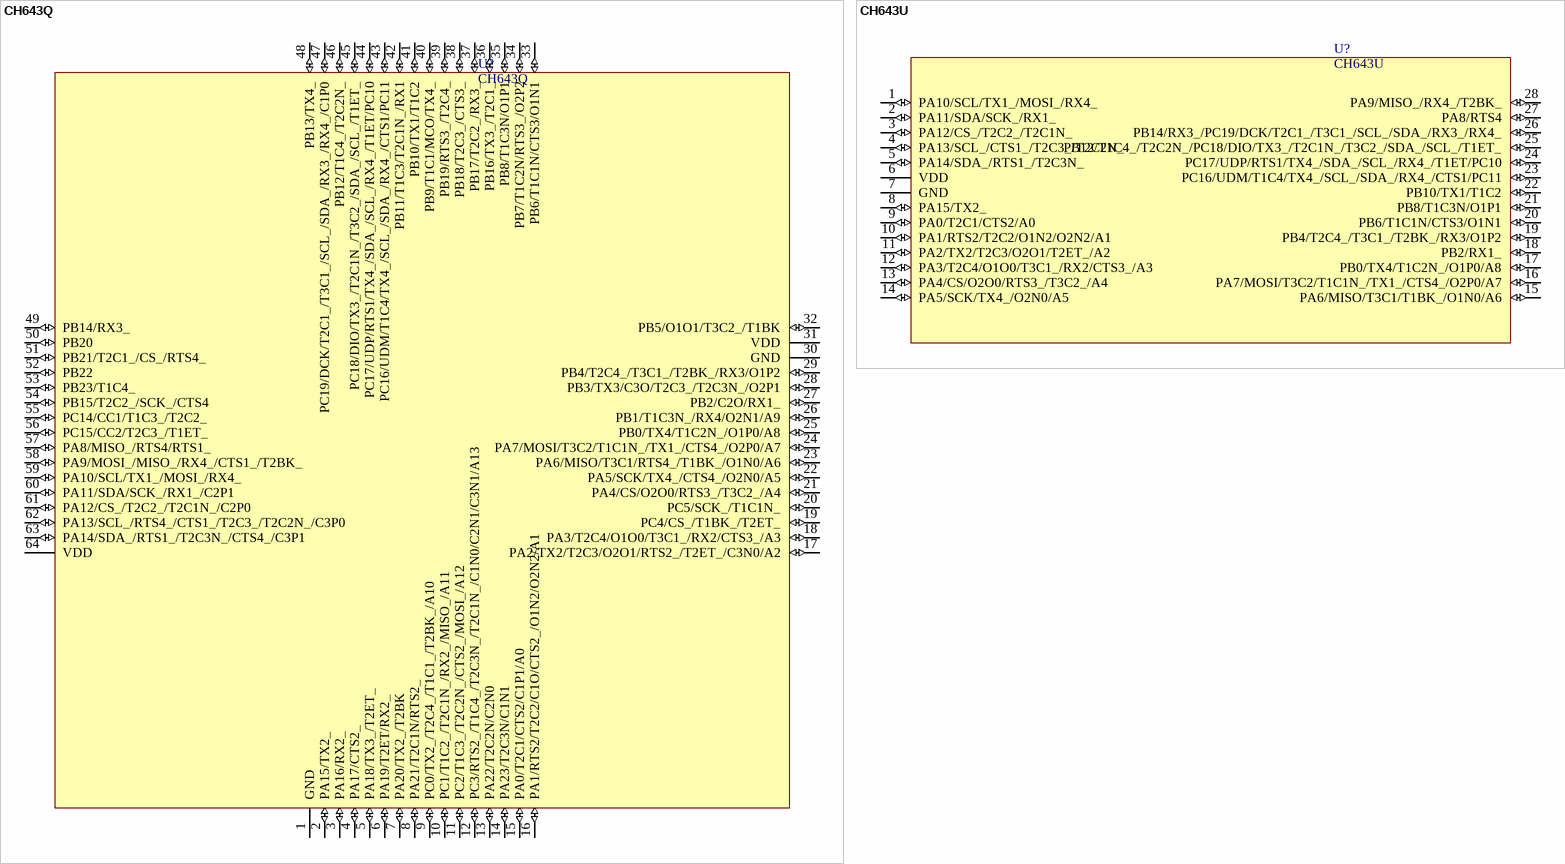
[diagram p24: symbols CH643Q to CH643U]

## CH643Q
designator U?
RISC-V MCU with USB/RGB/ADC/SPI/I2C/4*UART/PD; CPU内核: RISC-V4C; CPU最大主频: 48MHz; I/O数量: 60; 制造商: WCH(南京沁恒); 子类别: RISC-V RGB驱动; 存储器类型: FLASH; 存储容量: 62KB; 封装: LQFP64; 工作电压: 3.3V/5.0V; 类别: RGB驱动芯片
footprint LQFP64 (Footprint not found)
pins: 1 GND (power), 2 PA15/TX2_ (io), 3 PA16/RX2_ (io), 4 PA17/CTS2_ (io), 5 PA18/TX3_/T2ET_ (io), 6 PA19/T2ET/RX2_ (io), 7 PA20/TX2_/T2BK (io), 8 PA21/T2C1N/RTS2_ (io), 9 PC0/TX2_/T2C4_/T1C1_/T2BK_/A10 (io), 10 PC1/T1C2_/T2C1N_/RX2_/MISO_/A11 (io), 11 PC2/T1C3_/T2C2N_/CTS2_/MOSI_/A12 (io), 12 PC3/RTS2_/T1C4_/T2C3N_/T2C1N_/C1N0/C2N1/C3N1/A13 (io), 13 PA22/T2C2N/C2N0 (io), 14 PA23/T2C3N/C1N1 (io), 15 PA0/T2C1/CTS2/C1P1/A0 (io), 16 PA1/RTS2/T2C2/C1O/CTS2_/O1N2/O2N2/A1 (io), 17 PA2/TX2/T2C3/O2O1/RTS2_/T2ET_/C3N0/A2 (io), 18 PA3/T2C4/O1O0/T3C1_/RX2/CTS3_/A3 (io), 19 PC4/CS_/T1BK_/T2ET_ (io), 20 PC5/SCK_/T1C1N_ (io), 21 PA4/CS/O2O0/RTS3_/T3C2_/A4 (io), 22 PA5/SCK/TX4_/CTS4_/O2N0/A5 (io), 23 PA6/MISO/T3C1/RTS4_/T1BK_/O1N0/A6 (io), 24 PA7/MOSI/T3C2/T1C1N_/TX1_/CTS4_/O2P0/A7 (io), 25 PB0/TX4/T1C2N_/O1P0/A8 (io), 26 PB1/T1C3N_/RX4/O2N1/A9 (io), 27 PB2/C2O/RX1_ (io), 28 PB3/TX3/C3O/T2C3_/T2C3N_/O2P1 (io), 29 PB4/T2C4_/T3C1_/T2BK_/RX3/O1P2 (io), 30 GND (power), 31 VDD (power), 32 PB5/O1O1/T3C2_/T1BK (io), 33 PB6/T1C1N/CTS3/O1N1 (io), 34 PB7/T1C2N/RTS3_/O2P2 (io), 35 PB8/T1C3N/O1P1 (io), 36 PB16/TX3_/T2C1_ (io), 37 PB17/T2C2_/RX3_ (io), 38 PB18/T2C3_/CTS3_ (io), 39 PB19/RTS3_/T2C4_ (io), 40 PB9/T1C1/MCO/TX4_ (io), 41 PB10/TX1/T1C2 (io), 42 PB11/T1C3/T2C1N_/RX1 (io), 43 PC16/UDM/T1C4/TX4_/SCL_/SDA_/RX4_/CTS1/PC11 (io), 44 PC17/UDP/RTS1/TX4_/SDA_/SCL_/RX4_/T1ET/PC10 (io), 45 PC18/DIO/TX3_/T2C1N_/T3C2_/SDA_/SCL_/T1ET_ (io), 46 PB12/T1C4_/T2C2N_ (io), 47 PC19/DCK/T2C1_/T3C1_/SCL_/SDA_/RX3_/RX4_/C1P0 (io), 48 PB13/TX4_ (io), 49 PB14/RX3_ (io), 50 PB20 (io), 51 PB21/T2C1_/CS_/RTS4_ (io), 52 PB22 (io), 53 PB23/T1C4_ (io), 54 PB15/T2C2_/SCK_/CTS4 (io), 55 PC14/CC1/T1C3_/T2C2_ (io), 56 PC15/CC2/T2C3_/T1ET_ (io), 57 PA8/MISO_/RTS4/RTS1_ (io), 58 PA9/MOSI_/MISO_/RX4_/CTS1_/T2BK_ (io), 59 PA10/SCL/TX1_/MOSI_/RX4_ (io), 60 PA11/SDA/SCK_/RX1_/C2P1 (io), 61 PA12/CS_/T2C2_/T2C1N_/C2P0 (io), 62 PA13/SCL_/RTS4_/CTS1_/T2C3_/T2C2N_/C3P0 (io), 63 PA14/SDA_/RTS1_/T2C3N_/CTS4_/C3P1 (io), 64 VDD (power)

## CH643U
designator U?
RISC-V MCU with USB/RGB/ADC/SPI/I2C/4*UART; CPU内核: RISC-V4C; CPU最大主频: 48MHz; I/O数量: 26; 制造商: WCH(南京沁恒); 子类别: RISC-V RGB驱动; 存储器类型: FLASH; 存储容量: 62KB; 封装: QSOP28; 工作电压: 3.3V/5.0V; 类别: RGB驱动芯片
footprint QSOP28 (Footprint not found)
pins: 1 PA10/SCL/TX1_/MOSI_/RX4_ (io), 2 PA11/SDA/SCK_/RX1_ (io), 3 PA12/CS_/T2C2_/T2C1N_ (io), 4 PA13/SCL_/CTS1_/T2C3_/T2C2N_ (io), 5 PA14/SDA_/RTS1_/T2C3N_ (io), 6 VDD (power), 7 GND (power), 8 PA15/TX2_ (io), 9 PA0/T2C1/CTS2/A0 (io), 10 PA1/RTS2/T2C2/O1N2/O2N2/A1 (io), 11 PA2/TX2/T2C3/O2O1/T2ET_/A2 (io), 12 PA3/T2C4/O1O0/T3C1_/RX2/CTS3_/A3 (io), 13 PA4/CS/O2O0/RTS3_/T3C2_/A4 (io), 14 PA5/SCK/TX4_/O2N0/A5 (io), 15 PA6/MISO/T3C1/T1BK_/O1N0/A6 (io), 16 PA7/MOSI/T3C2/T1C1N_/TX1_/CTS4_/O2P0/A7 (io), 17 PB0/TX4/T1C2N_/O1P0/A8 (io), 18 PB2/RX1_ (io), 19 PB4/T2C4_/T3C1_/T2BK_/RX3/O1P2 (io), 20 PB6/T1C1N/CTS3/O1N1 (io), 21 PB8/T1C3N/O1P1 (io), 22 PB10/TX1/T1C2 (io), 23 PC16/UDM/T1C4/TX4_/SCL_/SDA_/RX4_/CTS1/PC11 (io), 24 PC17/UDP/RTS1/TX4_/SDA_/SCL_/RX4_/T1ET/PC10 (io), 25 PB12/T1C4_/T2C2N_/PC18/DIO/TX3_/T2C1N_/T3C2_/SDA_/SCL_/T1ET_ (io), 26 PB14/RX3_/PC19/DCK/T2C1_/T3C1_/SCL_/SDA_/RX3_/RX4_ (io), 27 PA8/RTS4 (io), 28 PA9/MISO_/RX4_/T2BK_ (io)

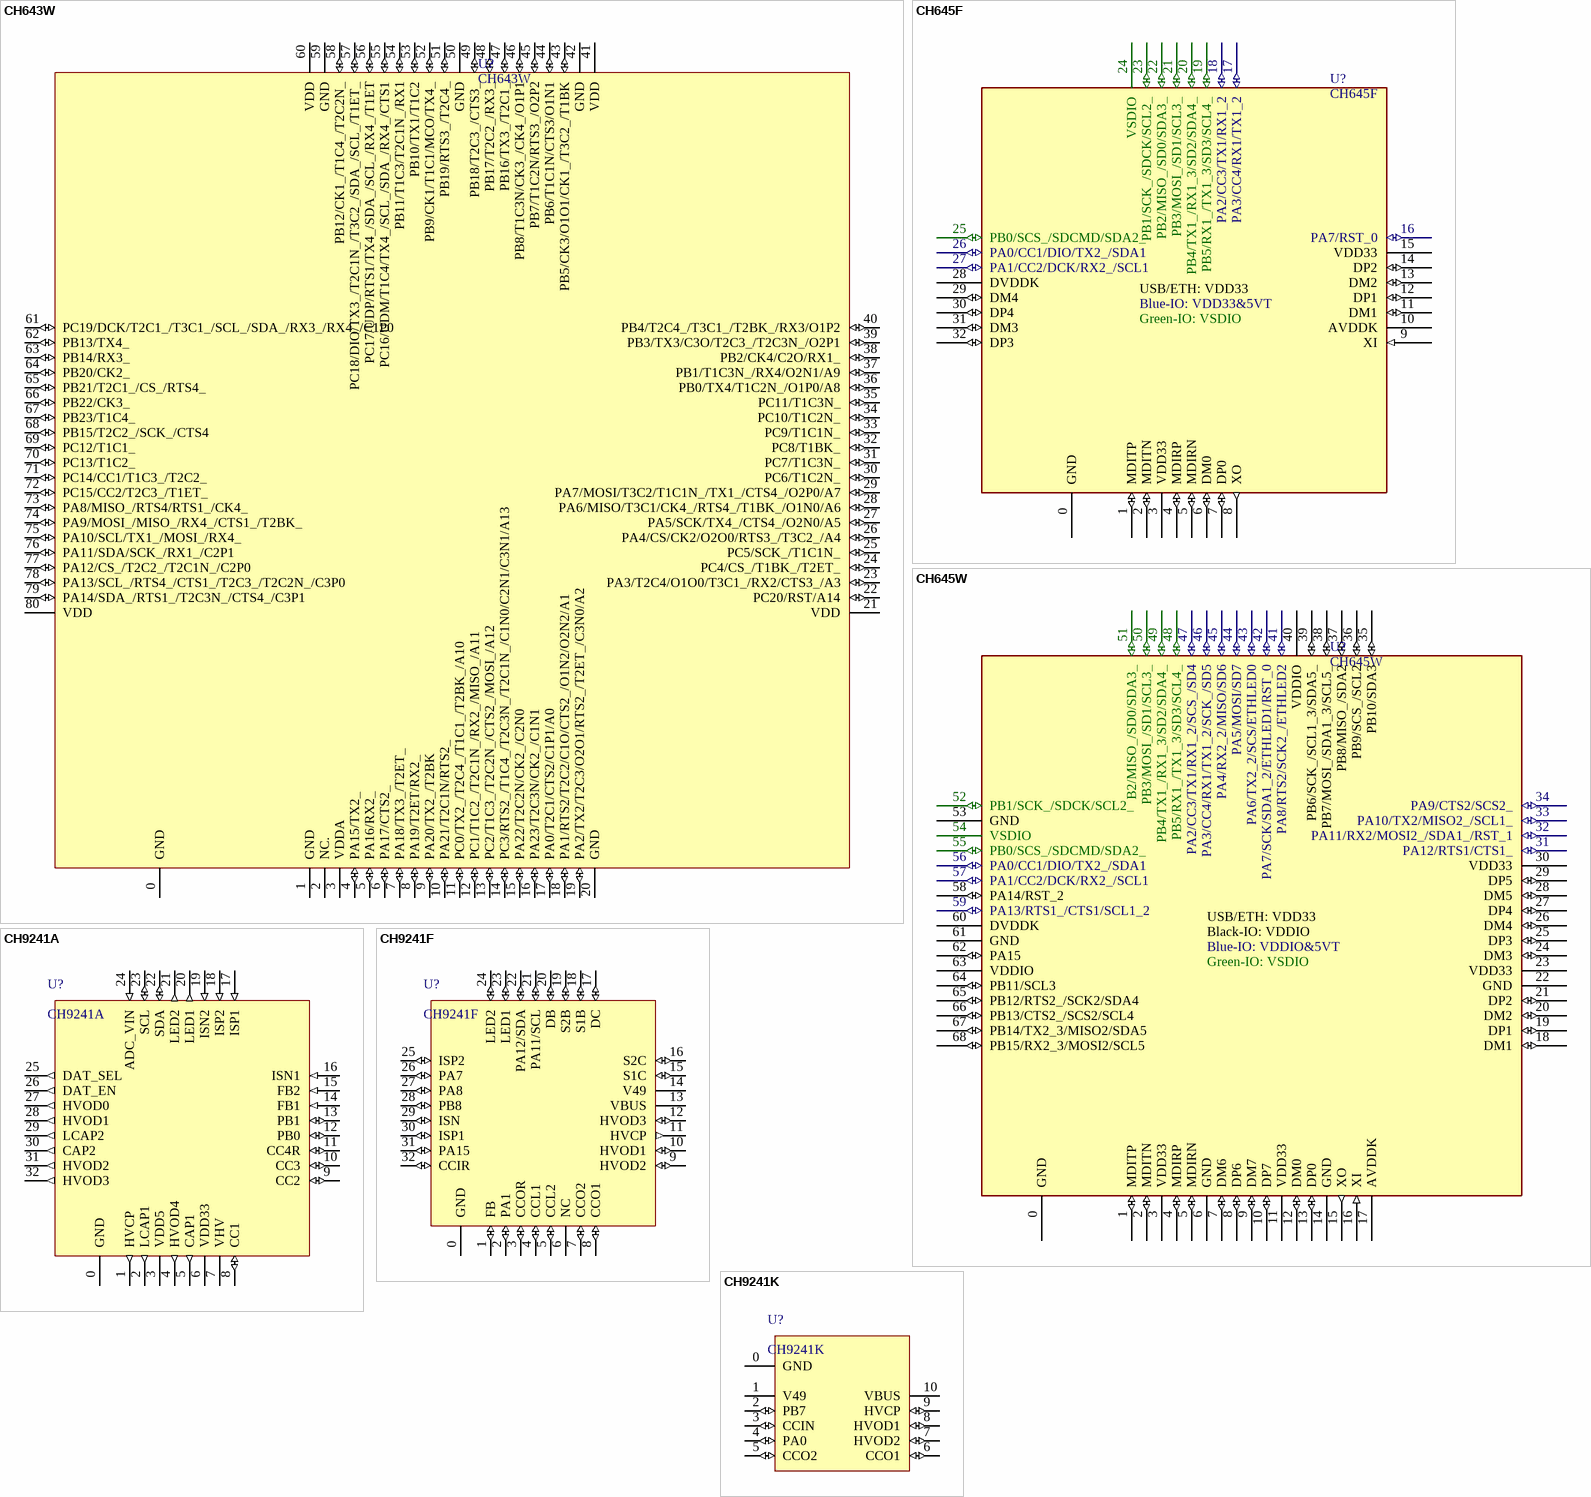
[diagram p25: symbols CH643W to CH9241K]

## CH643W
designator U?
RISC-V MCU with USB/RGB/ADC/SPI/I2C/4*UART/PD; CPU内核: RISC-V4C; CPU最大主频: 48MHz; I/O数量: 69; 制造商: WCH(南京沁恒); 子类别: RISC-V RGB驱动; 存储器类型: FLASH; 存储容量: 62KB; 封装: QFN80; 工作电压: 3.3V/5.0V; 类别: RGB驱动芯片
footprint QFN80_9X9 (Footprint not found)
pins: 0 GND (power), 1 GND (power), 2 NC., 3 VDDA (power), 4 PA15/TX2_ (io), 5 PA16/RX2_ (io), 6 PA17/CTS2_ (io), 7 PA18/TX3_/T2ET_ (io), 8 PA19/T2ET/RX2_ (io), 9 PA20/TX2_/T2BK (io), 10 PA21/T2C1N/RTS2_ (io), 11 PC0/TX2_/T2C4_/T1C1_/T2BK_/A10 (io), 12 PC1/T1C2_/T2C1N_/RX2_/MISO_/A11 (io), 13 PC2/T1C3_/T2C2N_/CTS2_/MOSI_/A12 (io), 14 PC3/RTS2_/T1C4_/T2C3N_/T2C1N_/C1N0/C2N1/C3N1/A13 (io), 15 PA22/T2C2N/CK2_/C2N0 (io), 16 PA23/T2C3N/CK2_/C1N1 (io), 17 PA0/T2C1/CTS2/C1P1/A0 (io), 18 PA1/RTS2/T2C2/C1O/CTS2_/O1N2/O2N2/A1 (io), 19 PA2/TX2/T2C3/O2O1/RTS2_/T2ET_/C3N0/A2 (io), 20 GND (power), 21 VDD (power), 22 PC20/RST/A14 (io), 23 PA3/T2C4/O1O0/T3C1_/RX2/CTS3_/A3 (io), 24 PC4/CS_/T1BK_/T2ET_ (io), 25 PC5/SCK_/T1C1N_ (io), 26 PA4/CS/CK2/O2O0/RTS3_/T3C2_/A4 (io), 27 PA5/SCK/TX4_/CTS4_/O2N0/A5 (io), 28 PA6/MISO/T3C1/CK4_/RTS4_/T1BK_/O1N0/A6 (io), 29 PA7/MOSI/T3C2/T1C1N_/TX1_/CTS4_/O2P0/A7 (io), 30 PC6/T1C2N_ (io), 31 PC7/T1C3N_ (io), 32 PC8/T1BK_ (io), 33 PC9/T1C1N_ (io), 34 PC10/T1C2N_ (io), 35 PC11/T1C3N_ (io), 36 PB0/TX4/T1C2N_/O1P0/A8 (io), 37 PB1/T1C3N_/RX4/O2N1/A9 (io), 38 PB2/CK4/C2O/RX1_ (io), 39 PB3/TX3/C3O/T2C3_/T2C3N_/O2P1 (io), 40 PB4/T2C4_/T3C1_/T2BK_/RX3/O1P2 (io), 41 VDD (power), 42 GND (power), 43 PB5/CK3/O1O1/CK1_/T3C2_/T1BK (io), 44 PB6/T1C1N/CTS3/O1N1 (io), 45 PB7/T1C2N/RTS3_/O2P2 (io), 46 PB8/T1C3N/CK3_/CK4_/O1P1 (io), 47 PB16/TX3_/T2C1_ (io), 48 PB17/T2C2_/RX3_ (io), 49 PB18/T2C3_/CTS3_ (io), 50 GND (power), 51 PB19/RTS3_/T2C4_ (io), 52 PB9/CK1/T1C1/MCO/TX4_ (io), 53 PB10/TX1/T1C2 (io), 54 PB11/T1C3/T2C1N_/RX1 (io), 55 PC16/UDM/T1C4/TX4_/SCL_/SDA_/RX4_/CTS1 (io), 56 PC17/UDP/RTS1/TX4_/SDA_/SCL_/RX4_/T1ET (io), 57 PC18/DIO/TX3_/T2C1N_/T3C2_/SDA_/SCL_/T1ET_ (io), 58 PB12/CK1_/T1C4_/T2C2N_ (io), 59 GND (power), 60 VDD (power), 61 PC19/DCK/T2C1_/T3C1_/SCL_/SDA_/RX3_/RX4_/C1P0 (io), 62 PB13/TX4_ (io), 63 PB14/RX3_ (io), 64 PB20/CK2_ (io), 65 PB21/T2C1_/CS_/RTS4_ (io), 66 PB22/CK3_ (io), 67 PB23/T1C4_ (io), 68 PB15/T2C2_/SCK_/CTS4 (io), 69 PC12/T1C1_ (io), 70 PC13/T1C2_ (io), 71 PC14/CC1/T1C3_/T2C2_ (io), 72 PC15/CC2/T2C3_/T1ET_ (io), 73 PA8/MISO_/RTS4/RTS1_/CK4_ (io), 74 PA9/MOSI_/MISO_/RX4_/CTS1_/T2BK_ (io), 75 PA10/SCL/TX1_/MOSI_/RX4_ (io), 76 PA11/SDA/SCK_/RX1_/C2P1 (io), 77 PA12/CS_/T2C2_/T2C1N_/C2P0 (io), 78 PA13/SCL_/RTS4_/CTS1_/T2C3_/T2C2N_/C3P0 (io), 79 PA14/SDA_/RTS1_/T2C3N_/CTS4_/C3P1 (io), 80 VDD (power)

## CH645F
designator U?
RISC-V MCU, with 4*USB hub, 4*USB host, 4*I2C, 2*PD, SDIO, ethernet; CPU内核: RISC-V4C; CPU最大主频: 125MHz; I/O数量: 13; 制造商: WCH(南京沁恒); 子类别: RISC-V以太网; 存储器类型: FLASH; 存储容量: 224KB; 封装: QFN32; 工作电压: 3.3V; 类别: 以太网芯片
footprint QFN32_4X4 (Footprint not found)
pins: 0 GND (power), 1 MDITP (io), 2 MDITN (io), 3 VDD33 (power), 4 MDIRP (io), 5 MDIRN (io), 6 DM0 (io), 7 DP0 (io), 8 XO (out), 9 XI (in), 10 AVDDK (power), 11 DM1 (io), 12 DP1 (io), 13 DM2 (io), 14 DP2 (io), 15 VDD33 (power), 16 PA7/RST_0 (io), 17 PA3/CC4/RX1/TX1_2 (io), 18 PA2/CC3/TX1/RX1_2 (io), 19 PB5/RX1_/TX1_3/SD3/SCL4_ (io), 20 PB4/TX1_/RX1_3/SD2/SDA4_ (io), 21 PB3/MOSI_/SD1/SCL3_ (io), 22 PB2/MISO_/SD0/SDA3_ (io), 23 PB1/SCK_/SDCK/SCL2_ (io), 24 VSDIO (power), 25 PB0/SCS_/SDCMD/SDA2_ (io), 26 PA0/CC1/DIO/TX2_/SDA1 (io), 27 PA1/CC2/DCK/RX2_/SCL1 (io), 28 DVDDK (power), 29 DM4 (io), 30 DP4 (io), 31 DM3 (io), 32 DP3 (io)
text: USB/ETH: VDD33; Blue-IO: VDD33&5VT; Green-IO: VSDIO

## CH645W
designator U?
RISC-V MCU for KVM, with 4*USB hub, 4*USB host, 5*I2C, 2*PD, SDIO, ethernet; CPU内核: RISC-V4C; CPU最大主频: 125MHz; I/O数量: 40; 制造商: WCH(南京沁恒); 子类别: RISC-V以太网; 存储器类型: FLASH; 存储容量: 224KB; 封装: QFN68; 工作电压: 3.3V; 类别: 以太网芯片
footprint QFN68_8X8 (Footprint not found)
pins: 0 GND (power), 1 MDITP (io), 2 MDITN (io), 3 VDD33 (power), 4 MDIRP (io), 5 MDIRN (io), 6 GND (power), 7 DM6 (io), 8 DP6 (io), 9 DM7 (io), 10 DP7 (io), 11 VDD33 (power), 12 DM0 (io), 13 DP0 (io), 14 GND (power), 15 XO (out), 16 XI (in), 17 AVDDK (power), 18 DM1 (io), 19 DP1 (io), 20 DM2 (io), 21 DP2 (io), 22 GND (power), 23 VDD33 (power), 24 DM3 (io), 25 DP3 (io), 26 DM4 (io), 27 DP4 (io), 28 DM5 (io), 29 DP5 (io), 30 VDD33 (power), 31 PA12/RTS1/CTS1_ (io), 32 PA11/RX2/MOSI2_/SDA1_/RST_1 (io), 33 PA10/TX2/MISO2_/SCL1_ (io), 34 PA9/CTS2/SCS2_ (io), 35 PB10/SDA3 (io), 36 PB9/SCS_/SCL2 (io), 37 PB8/MISO_/SDA2 (io), 38 PB7/MOSI_/SDA1_3/SCL5_ (io), 39 PB6/SCK_/SCL1_3/SDA5_ (io), 40 VDDIO (power), 41 PA8/RTS2/SCK2_/ETHLED2 (io), 42 PA7/SCK/SDA1_2/ETHLED1/RST_0 (io), 43 PA6/TX2_2/SCS/ETHLED0 (io), 44 PA5/MOSI/SD7 (io), 45 PA4/RX2_2/MISO/SD6 (io), 46 PA3/CC4/RX1/TX1_2/SCK_/SD5 (io), 47 PA2/CC3/TX1/RX1_2/SCS_/SD4 (io), 48 PB5/RX1_/TX1_3/SD3/SCL4_ (io), 49 PB4/TX1_/RX1_3/SD2/SDA4_ (io), 50 PB3/MOSI_/SD1/SCL3_ (io), 51 B2/MISO_/SD0/SDA3_ (io), 52 PB1/SCK_/SDCK/SCL2_ (io), 53 GND (power), 54 VSDIO (power), 55 PB0/SCS_/SDCMD/SDA2_ (io), 56 PA0/CC1/DIO/TX2_/SDA1 (io), 57 PA1/CC2/DCK/RX2_/SCL1 (io), 58 PA14/RST_2 (io), 59 PA13/RTS1_/CTS1/SCL1_2 (io), 60 DVDDK (power), 61 GND (power), 62 PA15 (io), 63 VDDIO (power), 64 PB11/SCL3 (io), 65 PB12/RTS2_/SCK2/SDA4 (io), 66 PB13/CTS2_/SCS2/SCL4 (io), 67 PB14/TX2_3/MISO2/SDA5 (io), 68 PB15/RX2_3/MOSI2/SCL5 (io)
text: USB/ETH: VDD33; Black-IO: VDDIO; Blue-IO: VDDIO&5VT; Green-IO: VSDIO

## CH9241A
designator U?
RISC-V MCU & USB PD & Type-C & Fast Charge Power Consumer Controller; 制造商: WCH(南京沁恒); 子类别: RISC-V USB-PD; 封装: QFN32; 工作电压: 5-28V; 类别: USB-PD芯片; CPU内核: RISC-V; CPU最大主频: -; I/O数量: -; 存储器类型: -; 存储容量: -
footprint QFN32_4X4
pins: 0 GND (power), 1 HVCP (out), 2 LCAP1 (out), 3 VDD5 (power), 4 HVOD4 (out), 5 CAP1 (out), 6 VDD33 (power), 7 VHV (power), 8 CC1 (io), 9 CC2 (io), 10 CC3 (io), 11 CC4R (io), 12 PB0 (io), 13 PB1 (io), 14 FB1 (in), 15 FB2 (in), 16 ISN1 (in), 17 ISP1 (in), 18 ISP2 (in), 19 ISN2 (in), 20 LED1 (out), 21 LED2 (out), 22 SDA (io), 23 SCL (io), 24 ADC_VIN (in), 25 DAT_SEL (out), 26 DAT_EN (out), 27 HVOD0 (out), 28 HVOD1 (out), 29 LCAP2 (out), 30 CAP2 (out), 31 HVOD2 (out), 32 HVOD3 (out)

## CH9241F
designator U?
RISC-V MCU & USB PD & Type-C & Fast Charge Power Consumer Controller; 制造商: WCH(南京沁恒); 子类别: RISC-V USB-PD; 封装: QFN32; 工作电压: 5-28V; 类别: USB-PD芯片; CPU内核: RISC-V; CPU最大主频: -; I/O数量: -; 存储器类型: -; 存储容量: -
footprint QFN32_4X4
pins: 0 GND (power), 1 FB (io), 2 PA1 (io), 3 CCOR (io), 4 CCL1 (io), 5 CCL2 (io), 6 NC, 7 CCO2 (io), 8 CCO1 (io), 9 HVOD2 (io), 10 HVOD1 (io), 11 HVCP (out), 12 HVOD3 (io), 13 VBUS (power), 14 V49 (power), 15 S1C (io), 16 S2C (io), 17 DC (io), 18 S1B (io), 19 S2B (io), 20 DB (io), 21 PA11/SCL (io), 22 PA12/SDA (io), 23 LED1 (io), 24 LED2 (io), 25 ISP2 (io), 26 PA7 (io), 27 PA8 (io), 28 PB8 (io), 29 ISN (io), 30 ISP1 (io), 31 PA15 (io), 32 CCIR (io)

## CH9241K
designator U?
RISC-V MCU & USB PD & Type-C & Fast Charge Power Consumer Controller; 制造商: WCH(南京沁恒); 子类别: RISC-V USB-PD; 封装: ESSOP10; 工作电压: 5-28V; 类别: USB-PD芯片; CPU内核: RISC-V; CPU最大主频: -; I/O数量: -; 存储器类型: -; 存储容量: -
footprint ESSOP10
pins: 0 GND (power), 1 V49 (power), 2 PB7 (io), 3 CCIN (io), 4 PA0 (io), 5 CCO2 (io), 6 CCO1 (io), 7 HVOD2 (io), 8 HVOD1 (io), 9 HVCP (io), 10 VBUS (power)

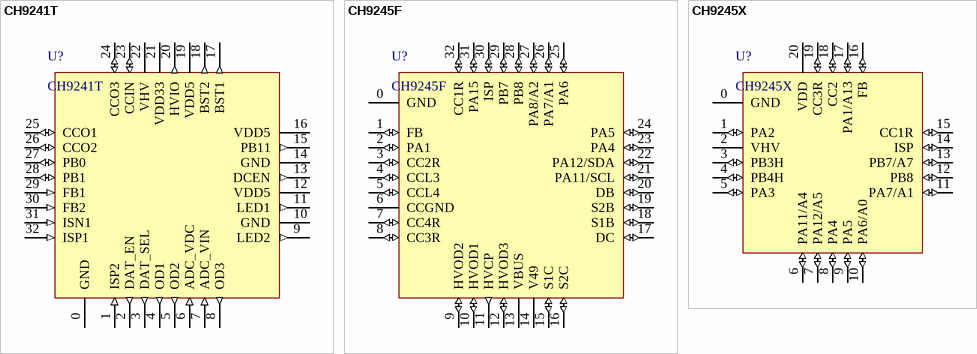
[diagram p26: symbols CH9241T to CH9245X]

## CH9241T
designator U?
RISC-V MCU & USB PD & Type-C & Fast Charge Power Consumer Controller; 制造商: WCH(南京沁恒); 子类别: RISC-V USB-PD; 封装: QFN32; 工作电压: 5-28V; 类别: USB-PD芯片; CPU内核: RISC-V; CPU最大主频: -; I/O数量: -; 存储器类型: -; 存储容量: -
footprint QFN32_4X4
pins: 0 GND (power), 1 ISP2 (in), 2 DAT_EN (out), 3 DAT_SEL (out), 4 OD1 (out), 5 OD2 (out), 6 ADC_VDC (in), 7 ADC_VIN (in), 8 OD3 (out), 9 LED2 (out), 10 GND (power), 11 LED1 (out), 12 VDD5 (power), 13 DCEN (out), 14 GND (power), 15 PB11 (out), 16 VDD5 (power), 17 BST1 (out), 18 BST2 (out), 19 VDD5 (power), 20 HVIO (out), 21 VDD33 (power), 22 VHV (power), 23 CCIN (io), 24 CCO3 (io), 25 CCO1 (io), 26 CCO2 (io), 27 PB0 (io), 28 PB1 (io), 29 FB1 (in), 30 FB2 (in), 31 ISN1 (in), 32 ISP1 (in)

## CH9245F
designator U?
RISC-V MCU & USB PD & Type-C & Fast Charge Power Consumer Controller; 制造商: WCH(南京沁恒); 子类别: RISC-V USB-PD; 封装: QFN20; 工作电压: 5-12V; 类别: USB-PD芯片; CPU内核: RISC-V; CPU最大主频: -; I/O数量: -; 存储器类型: -; 存储容量: -
footprint QFN32_4X4
pins: 0 GND (power), 1 FB (io), 2 PA1 (io), 3 CC2R (io), 4 CCL3 (io), 5 CCL4 (io), 6 CCGND (power), 7 CC4R (io), 8 CC3R (io), 9 HVOD2 (io), 10 HVOD1 (io), 11 HVCP (out), 12 HVOD3 (io), 13 VBUS (power), 14 V49 (power), 15 S1C (io), 16 S2C (io), 17 DC (io), 18 S1B (io), 19 S2B (io), 20 DB (io), 21 PA11/SCL (io), 22 PA12/SDA (io), 23 PA4 (io), 24 PA5 (io), 25 PA6 (io), 26 PA7/A1 (io), 27 PA8/A2 (io), 28 PB8 (io), 29 PB7 (io), 30 ISP (io), 31 PA15 (io), 32 CC1R (io)

## CH9245X
designator U?
RISC-V MCU & USB PD & Type-C & Fast Charge Power Consumer Controller; 制造商: WCH(南京沁恒); 子类别: RISC-V USB-PD; 封装: QFN32; 工作电压: 5-28V; 类别: USB-PD芯片; CPU内核: RISC-V; CPU最大主频: -; I/O数量: -; 存储器类型: -; 存储容量: -
footprint QFN20_3X3
pins: 0 GND (power), 1 PA2 (io), 2 VHV (power), 3 PB3H (io), 4 PB4H (io), 5 PA3 (io), 6 PA11/A4 (io), 7 PA12/A5 (io), 8 PA4 (io), 9 PA5 (io), 10 PA6/A0 (io), 11 PA7/A1 (io), 12 PB8 (io), 13 PB7/A7 (io), 14 ISP (io), 15 CC1R (io), 16 FB (io), 17 PA1/A13 (io), 18 CC2 (io), 19 CC3R (io), 20 VDD (power)